# Altium schematic symbol library MSP430原理图.SCHLIB: 130 symbols (part 2 of 2)

## MSP430F54XXIPN
designator ?
pins: 1 P6.4/A4, 2 P6.5/A5, 3 P6.6/A6, 4 P6.7/A7, 5 P7.4/A12, 6 P7.5/A13, 7 P7.6/A14, 8 P7.7/A15, 9 P5.0/A8/VREF+/VeREF+, 10 P5.1/A9/VREF?/VeREF-, 11 AVcc, 12 AVss, 13 P7.0/XIN, 14 P7.1/XOUT, 15 DVss1, 16 DVcc1, 17 P1.0, 18 P1.1/TA0.0, 19 P1.2/TA0.1, 20 P1.3/TA0.2, 21 P1.4/TA0.3, 22 P1.5/TA0.4, 23 P1.6/SMCLK, 24 P1.7, 25 P2.0, 26 P2.1/TA1.0, 27 P2.2/TA1.1, 28 P2.3/TA1.2, 29 P2.4/RTCCLK, 30 DVSS3, 31 DVCC3, 32 P2.5, 33 P2.6/ACLK, 34 P2.7, 35 P3.0, 36 P3.1, 37 P3.2, 38 P3.3, 39 P3.4, 40 P3.5, 41 P3.6, 42 P3.7, 43 P4.0/TB0.0, 44 P4.1/TB0.1, 45 P4.2/TB0.2, 46 P4.3/TB0.3, 47 P4.4/TB0.4, 48 P4.5/TB0.5, 49 VCORE, 50 DVSS2, 51 DVCC2, 52 P4.6/TB0.6, 53 P4.7/TBCLK/SMCLK, 54 P5.4/UCB1SOMI/UCB1SCL, 55 P5.5/UCB1SCLK/UCA1STE, 56 P5.6/UCA1TXD/UCA1SIMO, 57 P5.7/UCA1RXD/UCA1SOMI, 58 P7.2/TBOUTH/SVMOUT, 59 P7.3/TA1.2, 60 P8.0/TA0.0, 61 P8.1/TA0.1, 62 P8.2/TA0.2, 63 P8.3/TA0.3, 64 P8.4/TA0.4, 65 P8.5/TA1.0, 66 P8.6/TA1.1, 67 DVCC4, 68 DVSS4, 69 P5.2/XT2IN, 70 P5.3/XT2OUT, 71 TEST/SBWTCK, 72 PJ.0/TDO, 73 PJ.1/TDI/TCLK, 74 PJ.2/TMS, 75 PJ.3/TCK, 76 ~{RST}/NMI/SBWTDIO, 77 P6.0/A0, 78 P6.1/A1, 79 P6.2/A2, 80 P6.3/A3
text: 41:UCB1STE/UCA1CLK; 42:UCB1SIMO/UCB1SDA; 25:TA1CLK/MCLK; 34:ADC12CLK/DMAE0; 17:TA0CLK/ACLK; 35:UCB0STE/UCA0CLK; 36:UCB0SIMO/UCB0SDA; 37:UCB0SOMI/UCB0SCL; 38:UCB0CLK/UCA0STE; 39:UCA0TXD/UCA0SIMO; 40:UCA0RXD/UCA0SOMI

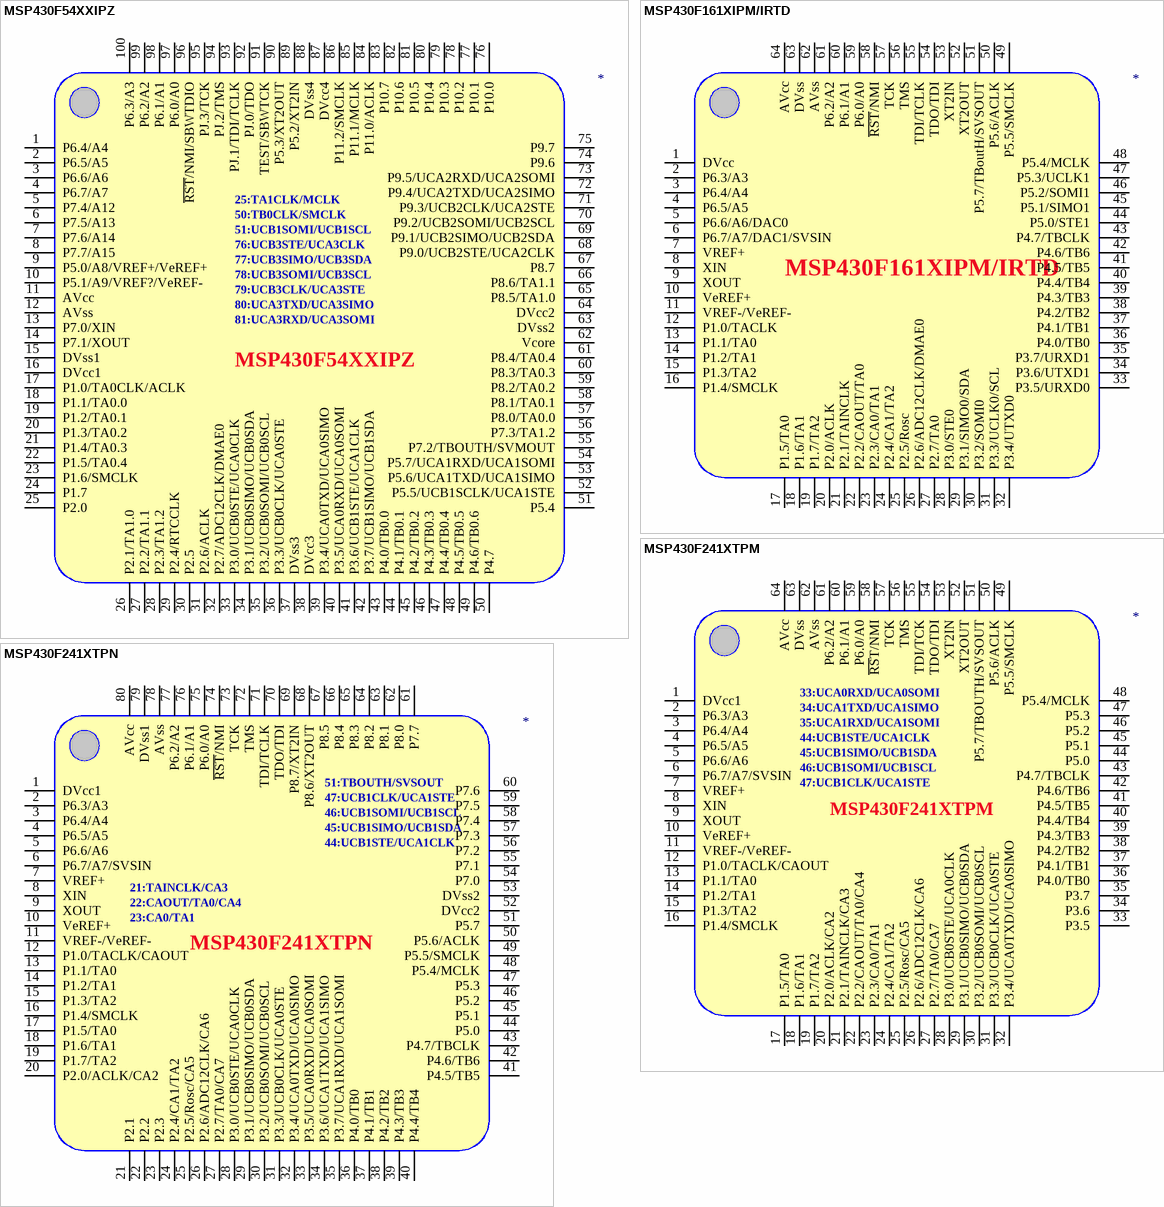
[diagram p9: symbols MSP430F54XXIPZ to MSP430F241XTPN]

## MSP430F54XXIPZ
designator ?
pins: 1 P6.4/A4, 2 P6.5/A5, 3 P6.6/A6, 4 P6.7/A7, 5 P7.4/A12, 6 P7.5/A13, 7 P7.6/A14, 8 P7.7/A15, 9 P5.0/A8/VREF+/VeREF+, 10 P5.1/A9/VREF?/VeREF-, 11 AVcc, 12 AVss, 13 P7.0/XIN, 14 P7.1/XOUT, 15 DVss1, 16 DVcc1, 17 P1.0/TA0CLK/ACLK, 18 P1.1/TA0.0, 19 P1.2/TA0.1, 20 P1.3/TA0.2, 21 P1.4/TA0.3, 22 P1.5/TA0.4, 23 P1.6/SMCLK, 24 P1.7, 25 P2.0, 26 P2.1/TA1.0, 27 P2.2/TA1.1, 28 P2.3/TA1.2, 29 P2.4/RTCCLK, 30 P2.5, 31 P2.6/ACLK, 32 P2.7/ADC12CLK/DMAE0, 33 P3.0/UCB0STE/UCA0CLK, 34 P3.1/UCB0SIMO/UCB0SDA, 35 P3.2/UCB0SOMI/UCB0SCL, 36 P3.3/UCB0CLK/UCA0STE, 37 DVss3, 38 DVcc3, 39 P3.4/UCA0TXD/UCA0SIMO, 40 P3.5/UCA0RXD/UCA0SOMI, 41 P3.6/UCB1STE/UCA1CLK, 42 P3.7/UCB1SIMO/UCB1SDA, 43 P4.0/TB0.0, 44 P4.1/TB0.1, 45 P4.2/TB0.2, 46 P4.3/TB0.3, 47 P4.4/TB0.4, 48 P4.5/TB0.5, 49 P4.6/TB0.6, 50 P4.7, 51 P5.4, 52 P5.5/UCB1SCLK/UCA1STE, 53 P5.6/UCA1TXD/UCA1SIMO, 54 P5.7/UCA1RXD/UCA1SOMI, 55 P7.2/TBOUTH/SVMOUT, 56 P7.3/TA1.2, 57 P8.0/TA0.0, 58 P8.1/TA0.1, 59 P8.2/TA0.2, 60 P8.3/TA0.3, 61 P8.4/TA0.4, 62 Vcore, 63 DVss2, 64 DVcc2, 65 P8.5/TA1.0, 66 P8.6/TA1.1, 67 P8.7, 68 P9.0/UCB2STE/UCA2CLK, 69 P9.1/UCB2SIMO/UCB2SDA, 70 P9.2/UCB2SOMI/UCB2SCL, 71 P9.3/UCB2CLK/UCA2STE, 72 P9.4/UCA2TXD/UCA2SIMO, 73 P9.5/UCA2RXD/UCA2SOMI, 74 P9.6, 75 P9.7, 76 P10.0, 77 P10.1, 78 P10.2, 79 P10.3, 80 P10.4, 81 P10.5, 82 P10.6, 83 P10.7, 84 P11.0/ACLK, 85 P11.1/MCLK, 86 P11.2/SMCLK, 87 DVcc4, 88 DVss4, 89 P5.2/XT2IN, 90 P5.3/XT2OUT, 91 TEST/SBWTCK, 92 PJ.0/TDO, 93 PJ.1/TDI/TCLK, 94 PJ.2/TMS, 95 PJ.3/TCK, 96 ~{RST}/NMI/SBWTDIO, 97 P6.0/A0, 98 P6.1/A1, 99 P6.2/A2, 100 P6.3/A3
text: 25:TA1CLK/MCLK; 50:TB0CLK/SMCLK; 51:UCB1SOMI/UCB1SCL; 76:UCB3STE/UCA3CLK; 77:UCB3SIMO/UCB3SDA; 78:UCB3SOMI/UCB3SCL; 79:UCB3CLK/UCA3STE; 80:UCA3TXD/UCA3SIMO; 81:UCA3RXD/UCA3SOMI

## MSP430F161XIPM/IRTD
designator ?
pins: 1 DVcc, 2 P6.3/A3, 3 P6.4/A4, 4 P6.5/A5, 5 P6.6/A6/DAC0, 6 P6.7/A7/DAC1/SVSIN, 7 VREF+, 8 XIN, 9 XOUT, 10 VeREF+, 11 VREF-/VeREF-, 12 P1.0/TACLK, 13 P1.1/TA0, 14 P1.2/TA1, 15 P1.3/TA2, 16 P1.4/SMCLK, 17 P1.5/TA0, 18 P1.6/TA1, 19 P1.7/TA2, 20 P2.0/ACLK, 21 P2.1/TAINCLK, 22 P2.2/CAOUT/TA0, 23 P2.3/CA0/TA1, 24 P2.4/CA1/TA2, 25 P2.5/Rosc, 26 P2.6/ADC12CLK/DMAE0, 27 P2.7/TA0, 28 P3.0/STE0, 29 P3.1/SIMO0/SDA, 30 P3.2/SOMI0, 31 P3.3/UCLK0/SCL, 32 P3.4/UTXD0, 33 P3.5/URXD0, 34 P3.6/UTXD1, 35 P3.7/URXD1, 36 P4.0/TB0, 37 P4.1/TB1, 38 P4.2/TB2, 39 P4.3/TB3, 40 P4.4/TB4, 41 P4.5/TB5, 42 P4.6/TB6, 43 P4.7/TBCLK, 44 P5.0/STE1, 45 P5.1/SIMO1, 46 P5.2/SOMI1, 47 P5.3/UCLK1, 48 P5.4/MCLK, 49 P5.5/SMCLK, 50 P5.6/ACLK, 51 P5.7/TBoutH/SVSOUT, 52 XT2OUT, 53 XT2IN, 54 TDO/TDI, 55 TDI/TCLK, 56 TMS, 57 TCK, 58 ~{RST}/NMI, 59 P6.0/A0, 60 P6.1/A1, 61 P6.2/A2, 62 AVss, 63 DVss, 64 AVcc

## MSP430F241XTPM
designator ?
pins: 1 DVcc1, 2 P6.3/A3, 3 P6.4/A4, 4 P6.5/A5, 5 P6.6/A6, 6 P6.7/A7/SVSIN, 7 VREF+, 8 XIN, 9 XOUT, 10 VeREF+, 11 VREF-/VeREF-, 12 P1.0/TACLK/CAOUT, 13 P1.1/TA0, 14 P1.2/TA1, 15 P1.3/TA2, 16 P1.4/SMCLK, 17 P1.5/TA0, 18 P1.6/TA1, 19 P1.7/TA2, 20 P2.0/ACLK/CA2, 21 P2.1/TAINCLK/CA3, 22 P2.2/CAOUT/TA0/CA4, 23 P2.3/CA0/TA1, 24 P2.4/CA1/TA2, 25 P2.5/Rosc/CA5, 26 P2.6/ADC12CLK/CA6, 27 P2.7/TA0/CA7, 28 P3.0/UCB0STE/UCA0CLK, 29 P3.1/UCB0SIMO/UCB0SDA, 30 P3.2/UCB0SOMI/UCB0SCL, 31 P3.3/UCB0CLK/UCA0STE, 32 P3.4/UCA0TXD/UCA0SIMO, 33 P3.5, 34 P3.6, 35 P3.7, 36 P4.0/TB0, 37 P4.1/TB1, 38 P4.2/TB2, 39 P4.3/TB3, 40 P4.4/TB4, 41 P4.5/TB5, 42 P4.6/TB6, 43 P4.7/TBCLK, 44 P5.0, 45 P5.1, 46 P5.2, 47 P5.3, 48 P5.4/MCLK, 49 P5.5/SMCLK, 50 P5.6/ACLK, 51 P5.7/TBOUTH/SVSOUT, 52 XT2OUT, 53 XT2IN, 54 TDO/TDI, 55 TDI/TCK, 56 TMS, 57 TCK, 58 ~{RS}T/NMI, 59 P6.0/A0, 60 P6.1/A1, 61 P6.2/A2, 62 AVss, 63 DVss, 64 AVcc
text: 33:UCA0RXD/UCA0SOMI; 34:UCA1TXD/UCA1SIMO; 35:UCA1RXD/UCA1SOMI; 44:UCB1STE/UCA1CLK; 45:UCB1SIMO/UCB1SDA; 46:UCB1SOMI/UCB1SCL; 47:UCB1CLK/UCA1STE

## MSP430F241XTPN
designator ?
pins: 1 DVcc1, 2 P6.3/A3, 3 P6.4/A4, 4 P6.5/A5, 5 P6.6/A6, 6 P6.7/A7/SVSIN, 7 VREF+, 8 XIN, 9 XOUT, 10 VeREF+, 11 VREF-/VeREF-, 12 P1.0/TACLK/CAOUT, 13 P1.1/TA0, 14 P1.2/TA1, 15 P1.3/TA2, 16 P1.4/SMCLK, 17 P1.5/TA0, 18 P1.6/TA1, 19 P1.7/TA2, 20 P2.0/ACLK/CA2, 21 P2.1, 22 P2.2, 23 P2.3, 24 P2.4/CA1/TA2, 25 P2.5/Rosc/CA5, 26 P2.6/ADC12CLK/CA6, 27 P2.7/TA0/CA7, 28 P3.0/UCB0STE/UCA0CLK, 29 P3.1/UCB0SIMO/UCB0SDA, 30 P3.2/UCB0SOMI/UCB0SCL, 31 P3.3/UCB0CLK/UCA0STE, 32 P3.4/UCA0TXD/UCA0SIMO, 33 P3.5/UCA0RXD/UCA0SOMI, 34 P3.6/UCA1TXD/UCA1SIMO, 35 P3.7/UCA1RXD/UCA1SOMI, 36 P4.0/TB0, 37 P4.1/TB1, 38 P4.2/TB2, 39 P4.3/TB3, 40 P4.4/TB4, 41 P4.5/TB5, 42 P4.6/TB6, 43 P4.7/TBCLK, 44 P5.0, 45 P5.1, 46 P5.2, 47 P5.3, 48 P5.4/MCLK, 49 P5.5/SMCLK, 50 P5.6/ACLK, 51 P5.7, 52 DVcc2, 53 DVss2, 54 P7.0, 55 P7.1, 56 P7.2, 57 P7.3, 58 P7.4, 59 P7.5, 60 P7.6, 61 P7.7, 62 P8.0, 63 P8.1, 64 P8.2, 65 P8.3, 66 P8.4, 67 P8.5, 68 P8.6/XT2OUT, 69 P8.7/XT2IN, 70 TDO/TDI, 71 TDI/TCLK, 72 TMS, 73 TCK, 74 ~{RST}/NMI, 75 P6.0/A0, 76 P6.1/A1, 77 P6.2/A2, 78 AVss, 79 DVss1, 80 AVcc
text: 51:TBOUTH/SVSOUT; 47:UCB1CLK/UCA1STE; 46:UCB1SOMI/UCB1SCL; 45:UCB1SIMO/UCB1SDA; 44:UCB1STE/UCA1CLK; 21:TAINCLK/CA3; 22:CAOUT/TA0/CA4; 23:CA0/TA1

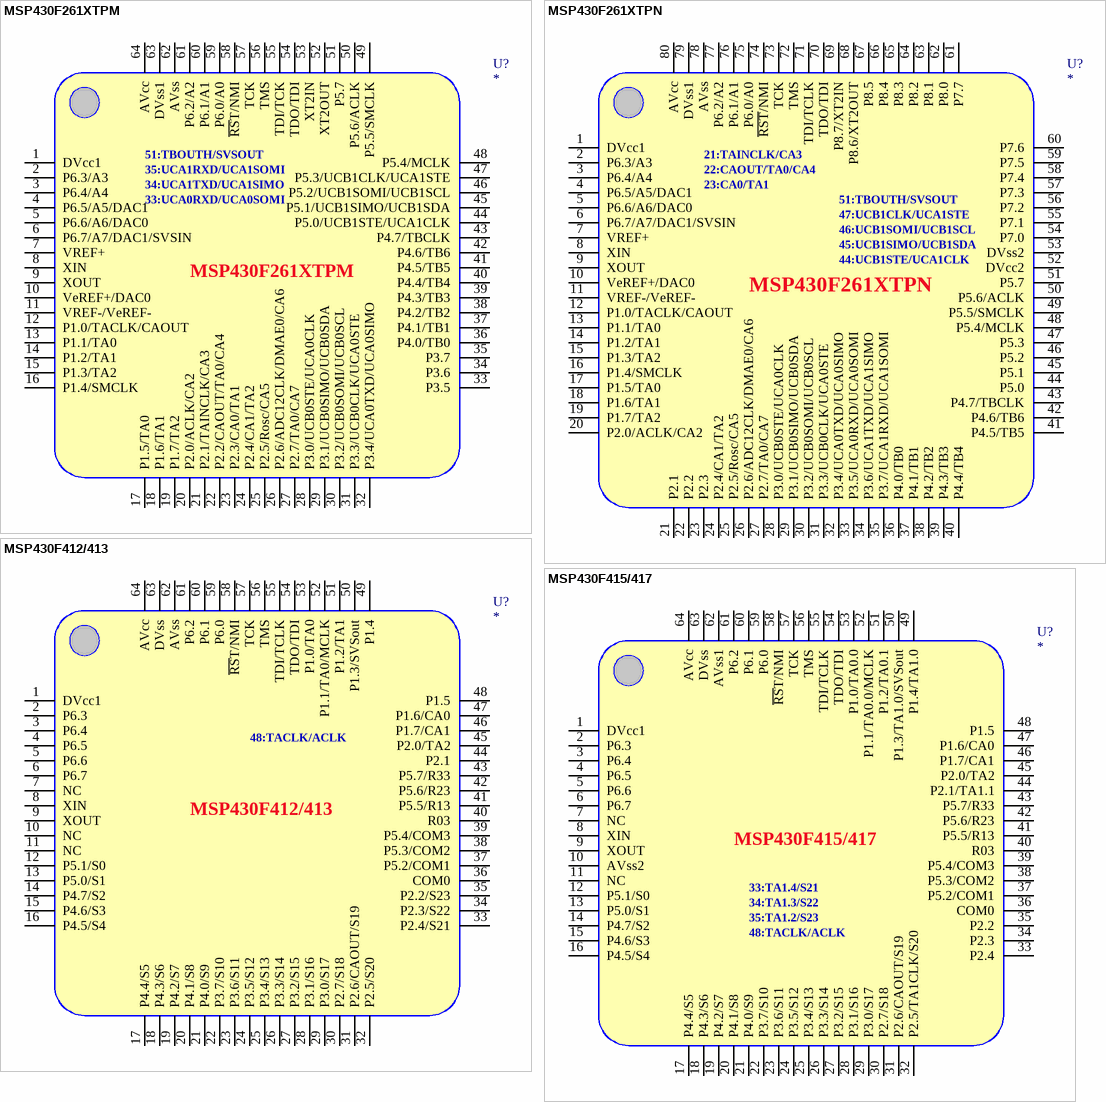
[diagram p10: symbols MSP430F261XTPM to MSP430F415/417]

## MSP430F261XTPM
designator U?
footprint S-PQFP-G64
pins: 1 DVcc1, 2 P6.3/A3, 3 P6.4/A4, 4 P6.5/A5/DAC1, 5 P6.6/A6/DAC0, 6 P6.7/A7/DAC1/SVSIN, 7 VREF+, 8 XIN, 9 XOUT, 10 VeREF+/DAC0, 11 VREF-/VeREF-, 12 P1.0/TACLK/CAOUT, 13 P1.1/TA0, 14 P1.2/TA1, 15 P1.3/TA2, 16 P1.4/SMCLK, 17 P1.5/TA0, 18 P1.6/TA1, 19 P1.7/TA2, 20 P2.0/ACLK/CA2, 21 P2.1/TAINCLK/CA3, 22 P2.2/CAOUT/TA0/CA4, 23 P2.3/CA0/TA1, 24 P2.4/CA1/TA2, 25 P2.5/Rosc/CA5, 26 P2.6/ADC12CLK/DMAE0/CA6, 27 P2.7/TA0/CA7, 28 P3.0/UCB0STE/UCA0CLK, 29 P3.1/UCB0SIMO/UCB0SDA, 30 P3.2/UCB0SOMI/UCB0SCL, 31 P3.3/UCB0CLK/UCA0STE, 32 P3.4/UCA0TXD/UCA0SIMO, 33 P3.5, 34 P3.6, 35 P3.7, 36 P4.0/TB0, 37 P4.1/TB1, 38 P4.2/TB2, 39 P4.3/TB3, 40 P4.4/TB4, 41 P4.5/TB5, 42 P4.6/TB6, 43 P4.7/TBCLK, 44 P5.0/UCB1STE/UCA1CLK, 45 P5.1/UCB1SIMO/UCB1SDA, 46 P5.2/UCB1SOMI/UCB1SCL, 47 P5.3/UCB1CLK/UCA1STE, 48 P5.4/MCLK, 49 P5.5/SMCLK, 50 P5.6/ACLK, 51 P5.7, 52 XT2OUT, 53 XT2IN, 54 TDO/TDI, 55 TDI/TCK, 56 TMS, 57 TCK, 58 ~{RS}T/NMI, 59 P6.0/A0, 60 P6.1/A1, 61 P6.2/A2, 62 AVss, 63 DVss1, 64 AVcc
text: 51:TBOUTH/SVSOUT; 35:UCA1RXD/UCA1SOMI; 34:UCA1TXD/UCA1SIMO; 33:UCA0RXD/UCA0SOMI

## MSP430F261XTPN
designator U?
MSP430F261XIPN
footprint S-PQFP-G80
pins: 1 DVcc1, 2 P6.3/A3, 3 P6.4/A4, 4 P6.5/A5/DAC1, 5 P6.6/A6/DAC0, 6 P6.7/A7/DAC1/SVSIN, 7 VREF+, 8 XIN, 9 XOUT, 10 VeREF+/DAC0, 11 VREF-/VeREF-, 12 P1.0/TACLK/CAOUT, 13 P1.1/TA0, 14 P1.2/TA1, 15 P1.3/TA2, 16 P1.4/SMCLK, 17 P1.5/TA0, 18 P1.6/TA1, 19 P1.7/TA2, 20 P2.0/ACLK/CA2, 21 P2.1, 22 P2.2, 23 P2.3, 24 P2.4/CA1/TA2, 25 P2.5/Rosc/CA5, 26 P2.6/ADC12CLK/DMAE0/CA6, 27 P2.7/TA0/CA7, 28 P3.0/UCB0STE/UCA0CLK, 29 P3.1/UCB0SIMO/UCB0SDA, 30 P3.2/UCB0SOMI/UCB0SCL, 31 P3.3/UCB0CLK/UCA0STE, 32 P3.4/UCA0TXD/UCA0SIMO, 33 P3.5/UCA0RXD/UCA0SOMI, 34 P3.6/UCA1TXD/UCA1SIMO, 35 P3.7/UCA1RXD/UCA1SOMI, 36 P4.0/TB0, 37 P4.1/TB1, 38 P4.2/TB2, 39 P4.3/TB3, 40 P4.4/TB4, 41 P4.5/TB5, 42 P4.6/TB6, 43 P4.7/TBCLK, 44 P5.0, 45 P5.1, 46 P5.2, 47 P5.3, 48 P5.4/MCLK, 49 P5.5/SMCLK, 50 P5.6/ACLK, 51 P5.7, 52 DVcc2, 53 DVss2, 54 P7.0, 55 P7.1, 56 P7.2, 57 P7.3, 58 P7.4, 59 P7.5, 60 P7.6, 61 P7.7, 62 P8.0, 63 P8.1, 64 P8.2, 65 P8.3, 66 P8.4, 67 P8.5, 68 P8.6/XT2OUT, 69 P8.7/XT2IN, 70 TDO/TDI, 71 TDI/TCLK, 72 TMS, 73 TCK, 74 ~{RST}/NMI, 75 P6.0/A0, 76 P6.1/A1, 77 P6.2/A2, 78 AVss, 79 DVss1, 80 AVcc
text: 21:TAINCLK/CA3; 22:CAOUT/TA0/CA4; 23:CA0/TA1; 51:TBOUTH/SVSOUT; 47:UCB1CLK/UCA1STE; 46:UCB1SOMI/UCB1SCL; 45:UCB1SIMO/UCB1SDA; 44:UCB1STE/UCA1CLK

## MSP430F412/413
designator U?
footprint S-PQFP-G64
pins: 1 DVcc1, 2 P6.3, 3 P6.4, 4 P6.5, 5 P6.6, 6 P6.7, 7 NC, 8 XIN, 9 XOUT, 10 NC, 11 NC, 12 P5.1/S0, 13 P5.0/S1, 14 P4.7/S2, 15 P4.6/S3, 16 P4.5/S4, 17 P4.4/S5, 18 P4.3/S6, 19 P4.2/S7, 20 P4.1/S8, 21 P4.0/S9, 22 P3.7/S10, 23 P3.6/S11, 24 P3.5/S12, 25 P3.4/S13, 26 P3.3/S14, 27 P3.2/S15, 28 P3.1/S16, 29 P3.0/S17, 30 P2.7/S18, 31 P2.6/CAOUT/S19, 32 P2.5/S20, 33 P2.4/S21, 34 P2.3/S22, 35 P2.2/S23, 36 COM0, 37 P5.2/COM1, 38 P5.3/COM2, 39 P5.4/COM3, 40 R03, 41 P5.5/R13, 42 P5.6/R23, 43 P5.7/R33, 44 P2.1, 45 P2.0/TA2, 46 P1.7/CA1, 47 P1.6/CA0, 48 P1.5, 49 P1.4, 50 P1.3/SVSout, 51 P1.2/TA1, 52 P1.1/TA0/MCLK, 53 P1.0/TA0, 54 TDO/TDI, 55 TDI/TCLK, 56 TMS, 57 TCK, 58 ~{RS}T/NMI, 59 P6.0, 60 P6.1, 61 P6.2, 62 AVss, 63 DVss, 64 AVcc
text: 48:TACLK/ACLK

## MSP430F415/417
designator U?
footprint S-PQFP-G64
pins: 1 DVcc1, 2 P6.3, 3 P6.4, 4 P6.5, 5 P6.6, 6 P6.7, 7 NC, 8 XIN, 9 XOUT, 10 AVss2, 11 NC, 12 P5.1/S0, 13 P5.0/S1, 14 P4.7/S2, 15 P4.6/S3, 16 P4.5/S4, 17 P4.4/S5, 18 P4.3/S6, 19 P4.2/S7, 20 P4.1/S8, 21 P4.0/S9, 22 P3.7/S10, 23 P3.6/S11, 24 P3.5/S12, 25 P3.4/S13, 26 P3.3/S14, 27 P3.2/S15, 28 P3.1/S16, 29 P3.0/S17, 30 P2.7/S18, 31 P2.6/CAOUT/S19, 32 P2.5/TA1CLK/S20, 33 P2.4, 34 P2.3, 35 P2.2, 36 COM0, 37 P5.2/COM1, 38 P5.3/COM2, 39 P5.4/COM3, 40 R03, 41 P5.5/R13, 42 P5.6/R23, 43 P5.7/R33, 44 P2.1/TA1.1, 45 P2.0/TA2, 46 P1.7/CA1, 47 P1.6/CA0, 48 P1.5, 49 P1.4/TA1.0, 50 P1.3/TA1.0/SVSout, 51 P1.2/TA0.1, 52 P1.1/TA0.0/MCLK, 53 P1.0/TA0.0, 54 TDO/TDI, 55 TDI/TCLK, 56 TMS, 57 TCK, 58 ~{RS}T/NMI, 59 P6.0, 60 P6.1, 61 P6.2, 62 AVss1, 63 DVss, 64 AVcc
text: 33:TA1.4/S21; 34:TA1.3/S22; 35:TA1.2/S23; 48:TACLK/ACLK

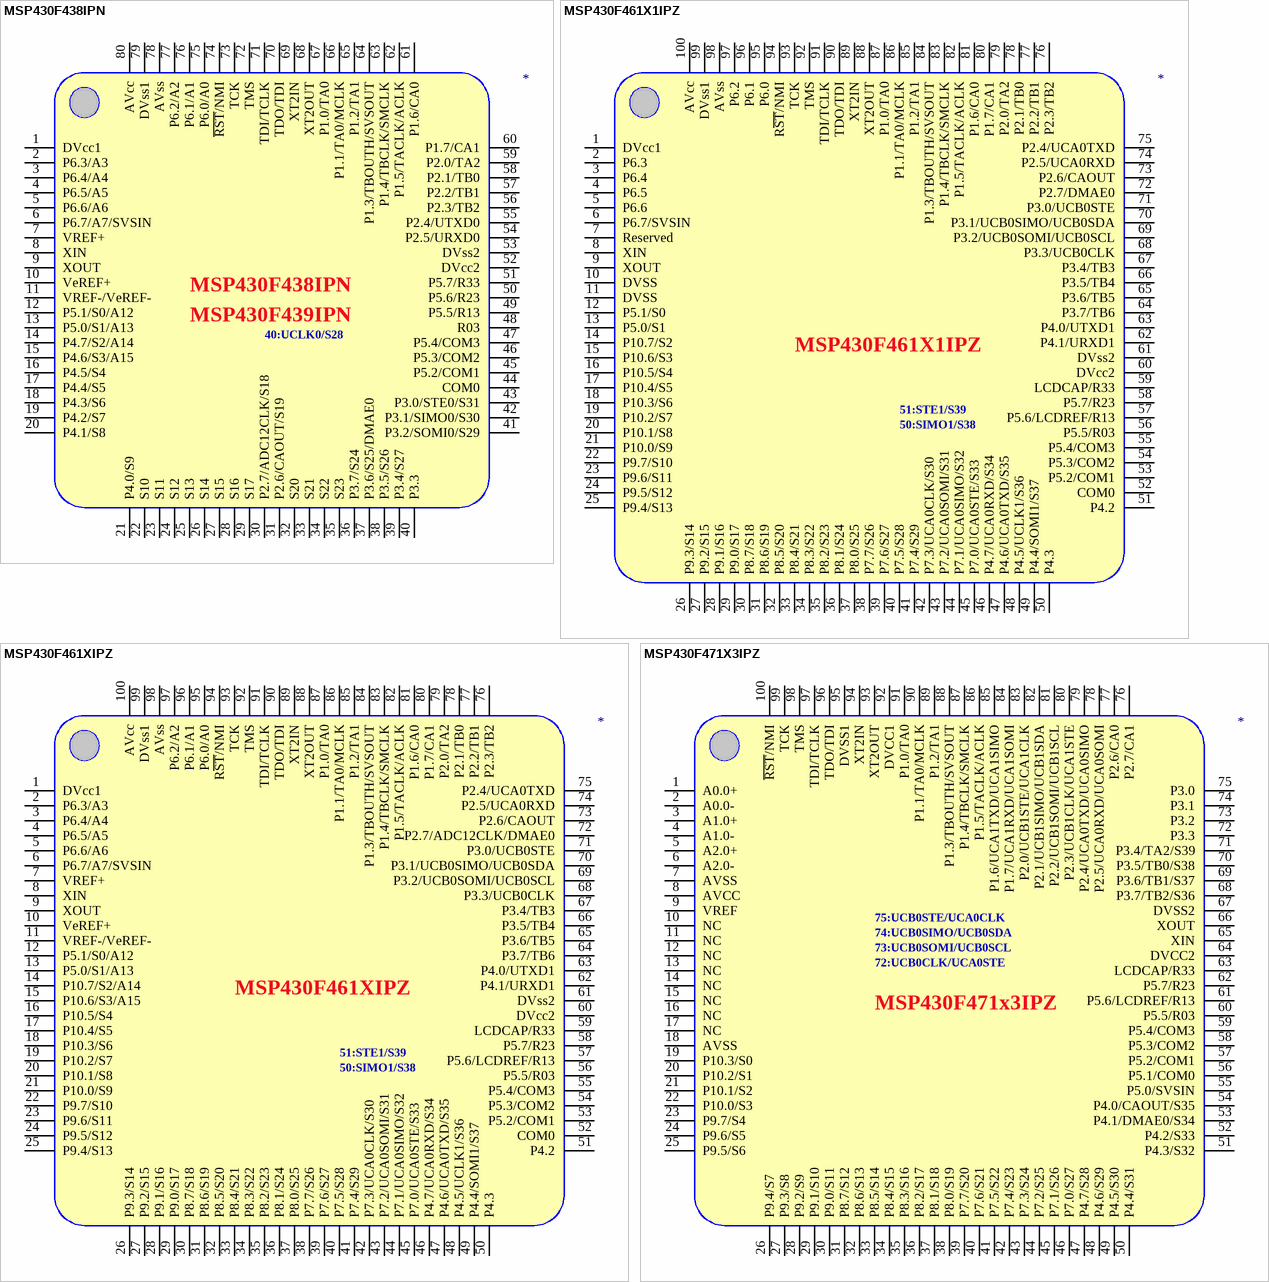
[diagram p11: symbols MSP430F438IPN to MSP430F471X3IPZ]

## MSP430F438IPN
designator ?
pins: 1 DVcc1, 2 P6.3/A3, 3 P6.4/A4, 4 P6.5/A5, 5 P6.6/A6, 6 P6.7/A7/SVSIN, 7 VREF+, 8 XIN, 9 XOUT, 10 VeREF+, 11 VREF-/VeREF-, 12 P5.1/S0/A12, 13 P5.0/S1/A13, 14 P4.7/S2/A14, 15 P4.6/S3/A15, 16 P4.5/S4, 17 P4.4/S5, 18 P4.3/S6, 19 P4.2/S7, 20 P4.1/S8, 21 P4.0/S9, 22 S10, 23 S11, 24 S12, 25 S13, 26 S14, 27 S15, 28 S16, 29 S17, 30 P2.7/ADC12CLK/S18, 31 P2.6/CAOUT/S19, 32 S20, 33 S21, 34 S22, 35 S23, 36 P3.7/S24, 37 P3.6/S25/DMAE0, 38 P3.5/S26, 39 P3.4/S27, 40 P3.3, 41 P3.2/SOMI0/S29, 42 P3.1/SIMO0/S30, 43 P3.0/STE0/S31, 44 COM0, 45 P5.2/COM1, 46 P5.3/COM2, 47 P5.4/COM3, 48 R03, 49 P5.5/R13, 50 P5.6/R23, 51 P5.7/R33, 52 DVcc2, 53 DVss2, 54 P2.5/URXD0, 55 P2.4/UTXD0, 56 P2.3/TB2, 57 P2.2/TB1, 58 P2.1/TB0, 59 P2.0/TA2, 60 P1.7/CA1, 61 P1.6/CA0, 62 P1.5/TACLK/ACLK, 63 P1.4/TBCLK/SMCLK, 64 P1.3/TBOUTH/SVSOUT, 65 P1.2/TA1, 66 P1.1/TA0/MCLK, 67 P1.0/TA0, 68 XT2OUT, 69 XT2IN, 70 TDO/TDI, 71 TDI/TCLK, 72 TMS, 73 TCK, 74 ~{RST}/NMI, 75 P6.0/A0, 76 P6.1/A1, 77 P6.2/A2, 78 AVss, 79 DVss1, 80 AVcc
text: MSP430F439IPN; 40:UCLK0/S28

## MSP430F461X1IPZ
designator ?
pins: 1 DVcc1, 2 P6.3, 3 P6.4, 4 P6.5, 5 P6.6, 6 P6.7/SVSIN, 7 Reserved, 8 XIN, 9 XOUT, 10 DVSS, 11 DVSS, 12 P5.1/S0, 13 P5.0/S1, 14 P10.7/S2, 15 P10.6/S3, 16 P10.5/S4, 17 P10.4/S5, 18 P10.3/S6, 19 P10.2/S7, 20 P10.1/S8, 21 P10.0/S9, 22 P9.7/S10, 23 P9.6/S11, 24 P9.5/S12, 25 P9.4/S13, 26 P9.3/S14, 27 P9.2/S15, 28 P9.1/S16, 29 P9.0/S17, 30 P8.7/S18, 31 P8.6/S19, 32 P8.5/S20, 33 P8.4/S21, 34 P8.3/S22, 35 P8.2/S23, 36 P8.1/S24, 37 P8.0/S25, 38 P7.7/S26, 39 P7.6/S27, 40 P7.5/S28, 41 P7.4/S29, 42 P7.3/UCA0CLK/S30, 43 P7.2/UCA0SOMI/S31, 44 P7.1/UCA0SIMO/S32, 45 P7.0/UCA0STE/S33, 46 P4.7/UCA0RXD/S34, 47 P4.6/UCA0TXD/S35, 48 P4.5/UCLK1/S36, 49 P4.4/SOMI1/S37, 50 P4.3, 51 P4.2, 52 COM0, 53 P5.2/COM1, 54 P5.3/COM2, 55 P5.4/COM3, 56 P5.5/R03, 57 P5.6/LCDREF/R13, 58 P5.7/R23, 59 LCDCAP/R33, 60 DVcc2, 61 DVss2, 62 P4.1/URXD1, 63 P4.0/UTXD1, 64 P3.7/TB6, 65 P3.6/TB5, 66 P3.5/TB4, 67 P3.4/TB3, 68 P3.3/UCB0CLK, 69 P3.2/UCB0SOMI/UCB0SCL, 70 P3.1/UCB0SIMO/UCB0SDA, 71 P3.0/UCB0STE, 72 P2.7/DMAE0, 73 P2.6/CAOUT, 74 P2.5/UCA0RXD, 75 P2.4/UCA0TXD, 76 P2.3/TB2, 77 P2.2/TB1, 78 P2.1/TB0, 79 P2.0/TA2, 80 P1.7/CA1, 81 P1.6/CA0, 82 P1.5/TACLK/ACLK, 83 P1.4/TBCLK/SMCLK, 84 P1.3/TBOUTH/SVSOUT, 85 P1.2/TA1, 86 P1.1/TA0/MCLK, 87 P1.0/TA0, 88 XT2OUT, 89 XT2IN, 90 TDO/TDI, 91 TDI/TCLK, 92 TMS, 93 TCK, 94 R~{ST}/NMI, 95 P6.0, 96 P6.1, 97 P6.2, 98 AVss, 99 DVss1, 100 AVcc
text: 51:STE1/S39; 50:SIMO1/S38

## MSP430F461XIPZ
designator ?
pins: 1 DVcc1, 2 P6.3/A3, 3 P6.4/A4, 4 P6.5/A5, 5 P6.6/A6, 6 P6.7/A7/SVSIN, 7 VREF+, 8 XIN, 9 XOUT, 10 VeREF+, 11 VREF-/VeREF-, 12 P5.1/S0/A12, 13 P5.0/S1/A13, 14 P10.7/S2/A14, 15 P10.6/S3/A15, 16 P10.5/S4, 17 P10.4/S5, 18 P10.3/S6, 19 P10.2/S7, 20 P10.1/S8, 21 P10.0/S9, 22 P9.7/S10, 23 P9.6/S11, 24 P9.5/S12, 25 P9.4/S13, 26 P9.3/S14, 27 P9.2/S15, 28 P9.1/S16, 29 P9.0/S17, 30 P8.7/S18, 31 P8.6/S19, 32 P8.5/S20, 33 P8.4/S21, 34 P8.3/S22, 35 P8.2/S23, 36 P8.1/S24, 37 P8.0/S25, 38 P7.7/S26, 39 P7.6/S27, 40 P7.5/S28, 41 P7.4/S29, 42 P7.3/UCA0CLK/S30, 43 P7.2/UCA0SOMI/S31, 44 P7.1/UCA0SIMO/S32, 45 P7.0/UCA0STE/S33, 46 P4.7/UCA0RXD/S34, 47 P4.6/UCA0TXD/S35, 48 P4.5/UCLK1/S36, 49 P4.4/SOMI1/S37, 50 P4.3, 51 P4.2, 52 COM0, 53 P5.2/COM1, 54 P5.3/COM2, 55 P5.4/COM3, 56 P5.5/R03, 57 P5.6/LCDREF/R13, 58 P5.7/R23, 59 LCDCAP/R33, 60 DVcc2, 61 DVss2, 62 P4.1/URXD1, 63 P4.0/UTXD1, 64 P3.7/TB6, 65 P3.6/TB5, 66 P3.5/TB4, 67 P3.4/TB3, 68 P3.3/UCB0CLK, 69 P3.2/UCB0SOMI/UCB0SCL, 70 P3.1/UCB0SIMO/UCB0SDA, 71 P3.0/UCB0STE, 72 P2.7/ADC12CLK/DMAE0, 73 P2.6/CAOUT, 74 P2.5/UCA0RXD, 75 P2.4/UCA0TXD, 76 P2.3/TB2, 77 P2.2/TB1, 78 P2.1/TB0, 79 P2.0/TA2, 80 P1.7/CA1, 81 P1.6/CA0, 82 P1.5/TACLK/ACLK, 83 P1.4/TBCLK/SMCLK, 84 P1.3/TBOUTH/SVSOUT, 85 P1.2/TA1, 86 P1.1/TA0/MCLK, 87 P1.0/TA0, 88 XT2OUT, 89 XT2IN, 90 TDO/TDI, 91 TDI/TCLK, 92 TMS, 93 TCK, 94 R~{ST}/NMI, 95 P6.0/A0, 96 P6.1/A1, 97 P6.2/A2, 98 AVss, 99 DVss1, 100 AVcc
text: 51:STE1/S39; 50:SIMO1/S38

## MSP430F471X3IPZ
designator ?
pins: 1 A0.0+, 2 A0.0-, 3 A1.0+, 4 A1.0-, 5 A2.0+, 6 A2.0-, 7 AVSS, 8 AVCC, 9 VREF, 10 NC, 11 NC, 12 NC, 13 NC, 14 NC, 15 NC, 16 NC, 17 NC, 18 AVSS, 19 P10.3/S0, 20 P10.2/S1, 21 P10.1/S2, 22 P10.0/S3, 23 P9.7/S4, 24 P9.6/S5, 25 P9.5/S6, 26 P9.4/S7, 27 P9.3/S8, 28 P9.2/S9, 29 P9.1/S10, 30 P9.0/S11, 31 P8.7/S12, 32 P8.6/S13, 33 P8.5/S14, 34 P8.4/S15, 35 P8.3/S16, 36 P8.2/S17, 37 P8.1/S18, 38 P8.0/S19, 39 P7.7/S20, 40 P7.6/S21, 41 P7.5/S22, 42 P7.4/S23, 43 P7.3/S24, 44 P7.2/S25, 45 P7.1/S26, 46 P7.0/S27, 47 P4.7/S28, 48 P4.6/S29, 49 P4.5/S30, 50 P4.4/S31, 51 P4.3/S32, 52 P4.2/S33, 53 P4.1/DMAE0/S34, 54 P4.0/CAOUT/S35, 55 P5.0/SVSIN, 56 P5.1/COM0, 57 P5.2/COM1, 58 P5.3/COM2, 59 P5.4/COM3, 60 P5.5/R03, 61 P5.6/LCDREF/R13, 62 P5.7/R23, 63 LCDCAP/R33, 64 DVCC2, 65 XIN, 66 XOUT, 67 DVSS2, 68 P3.7/TB2/S36, 69 P3.6/TB1/S37, 70 P3.5/TB0/S38, 71 P3.4/TA2/S39, 72 P3.3, 73 P3.2, 74 P3.1, 75 P3.0, 76 P2.7/CA1, 77 P2.6/CA0, 78 P2.5/UCA0RXD/UCA0SOMI, 79 P2.4/UCA0TXD/UCA0SIMO, 80 P2.3/UCB1CLK/UCA1STE, 81 P2.2/UCB1SOMI/UCB1SCL, 82 P2.1/UCB1SIMO/UCB1SDA, 83 P2.0/UCB1STE/UCA1CLK, 84 P1.7/UCA1RXD/UCA1SOMI, 85 P1.6/UCA1TXD/UCA1SIMO, 86 P1.5/TACLK/ACLK, 87 P1.4/TBCLK/SMCLK, 88 P1.3/TBOUTH/SVSOUT, 89 P1.2/TA1, 90 P1.1/TA0/MCLK, 91 P1.0/TA0, 92 DVCC1, 93 XT2OUT, 94 XT2IN, 95 DVSS1, 96 TDO/TDI, 97 TDI/TCLK, 98 TMS, 99 TCK, 100 ~{RST}/NMI
text: 75:UCB0STE/UCA0CLK; 74:UCB0SIMO/UCB0SDA; 73:UCB0SOMI/UCB0SCL; 72:UCB0CLK/UCA0STE; MSP430F471x3IPZ

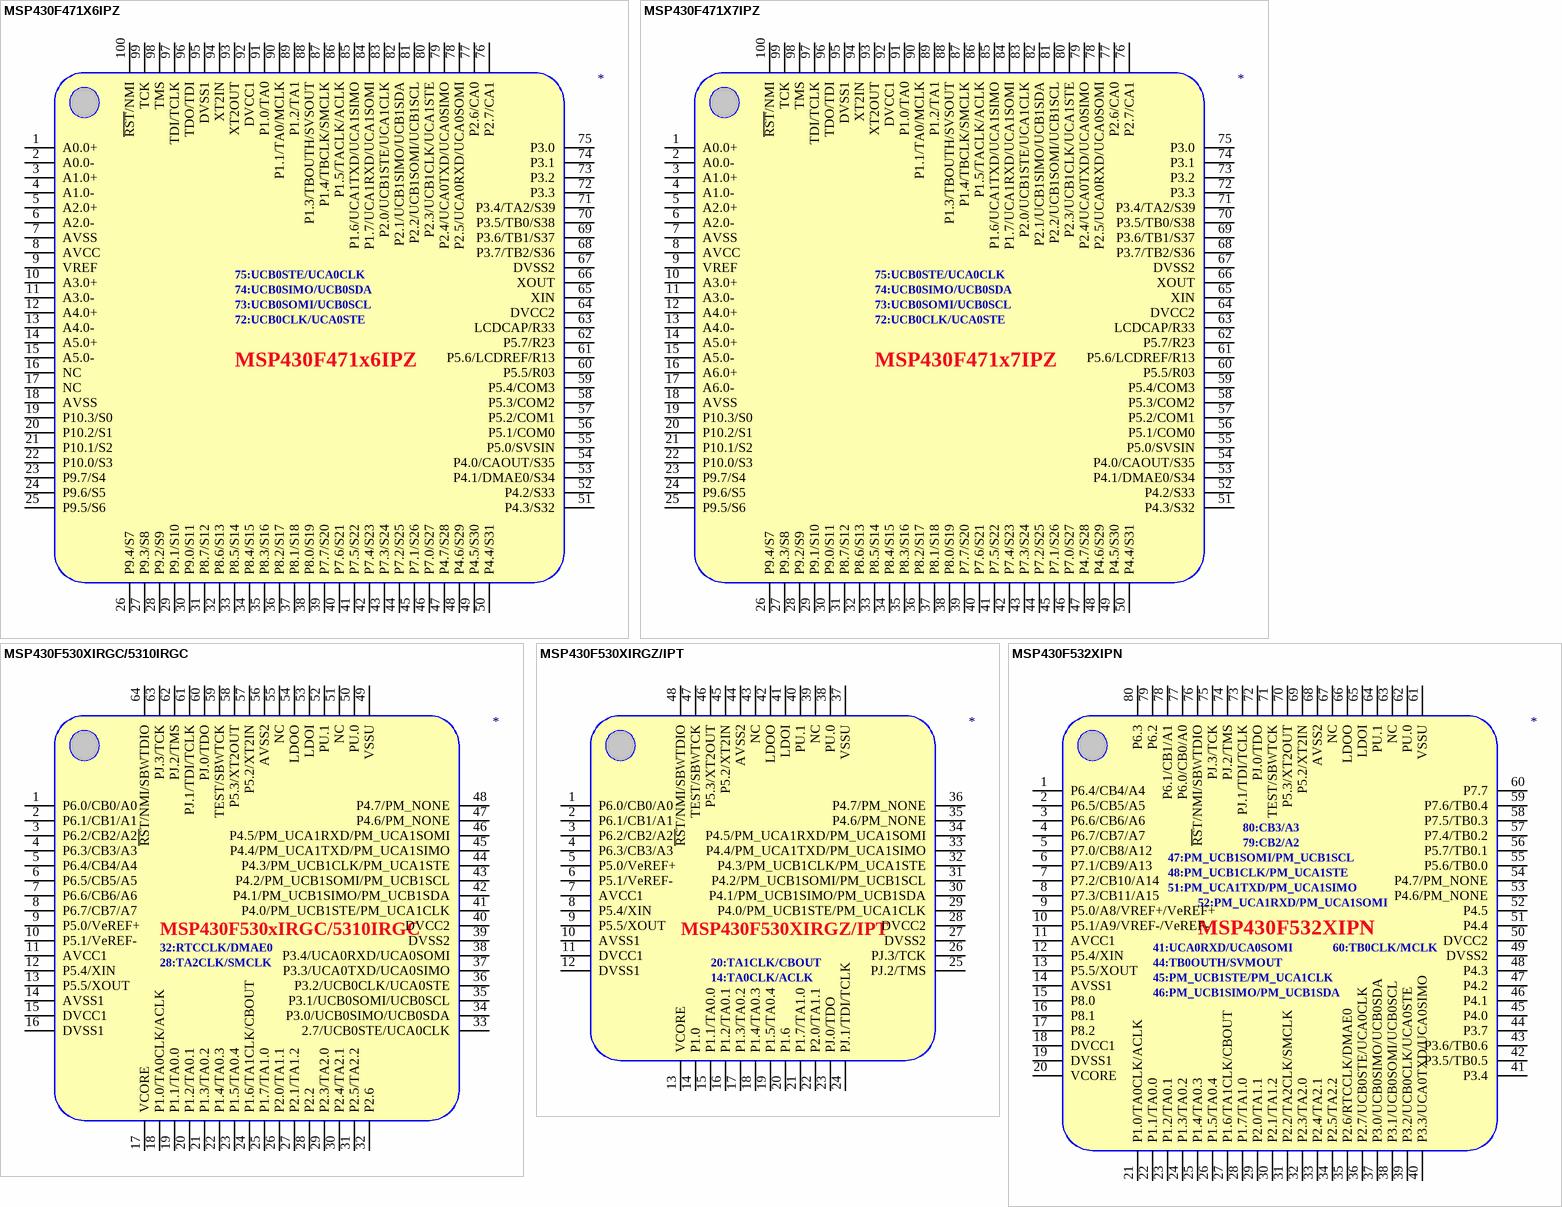
[diagram p12: symbols MSP430F471X6IPZ to MSP430F532XIPN]

## MSP430F471X6IPZ
designator ?
pins: 1 A0.0+, 2 A0.0-, 3 A1.0+, 4 A1.0-, 5 A2.0+, 6 A2.0-, 7 AVSS, 8 AVCC, 9 VREF, 10 A3.0+, 11 A3.0-, 12 A4.0+, 13 A4.0-, 14 A5.0+, 15 A5.0-, 16 NC, 17 NC, 18 AVSS, 19 P10.3/S0, 20 P10.2/S1, 21 P10.1/S2, 22 P10.0/S3, 23 P9.7/S4, 24 P9.6/S5, 25 P9.5/S6, 26 P9.4/S7, 27 P9.3/S8, 28 P9.2/S9, 29 P9.1/S10, 30 P9.0/S11, 31 P8.7/S12, 32 P8.6/S13, 33 P8.5/S14, 34 P8.4/S15, 35 P8.3/S16, 36 P8.2/S17, 37 P8.1/S18, 38 P8.0/S19, 39 P7.7/S20, 40 P7.6/S21, 41 P7.5/S22, 42 P7.4/S23, 43 P7.3/S24, 44 P7.2/S25, 45 P7.1/S26, 46 P7.0/S27, 47 P4.7/S28, 48 P4.6/S29, 49 P4.5/S30, 50 P4.4/S31, 51 P4.3/S32, 52 P4.2/S33, 53 P4.1/DMAE0/S34, 54 P4.0/CAOUT/S35, 55 P5.0/SVSIN, 56 P5.1/COM0, 57 P5.2/COM1, 58 P5.3/COM2, 59 P5.4/COM3, 60 P5.5/R03, 61 P5.6/LCDREF/R13, 62 P5.7/R23, 63 LCDCAP/R33, 64 DVCC2, 65 XIN, 66 XOUT, 67 DVSS2, 68 P3.7/TB2/S36, 69 P3.6/TB1/S37, 70 P3.5/TB0/S38, 71 P3.4/TA2/S39, 72 P3.3, 73 P3.2, 74 P3.1, 75 P3.0, 76 P2.7/CA1, 77 P2.6/CA0, 78 P2.5/UCA0RXD/UCA0SOMI, 79 P2.4/UCA0TXD/UCA0SIMO, 80 P2.3/UCB1CLK/UCA1STE, 81 P2.2/UCB1SOMI/UCB1SCL, 82 P2.1/UCB1SIMO/UCB1SDA, 83 P2.0/UCB1STE/UCA1CLK, 84 P1.7/UCA1RXD/UCA1SOMI, 85 P1.6/UCA1TXD/UCA1SIMO, 86 P1.5/TACLK/ACLK, 87 P1.4/TBCLK/SMCLK, 88 P1.3/TBOUTH/SVSOUT, 89 P1.2/TA1, 90 P1.1/TA0/MCLK, 91 P1.0/TA0, 92 DVCC1, 93 XT2OUT, 94 XT2IN, 95 DVSS1, 96 TDO/TDI, 97 TDI/TCLK, 98 TMS, 99 TCK, 100 ~{RST}/NMI
text: 75:UCB0STE/UCA0CLK; 74:UCB0SIMO/UCB0SDA; 73:UCB0SOMI/UCB0SCL; 72:UCB0CLK/UCA0STE; MSP430F471x6IPZ

## MSP430F471X7IPZ
designator ?
pins: 1 A0.0+, 2 A0.0-, 3 A1.0+, 4 A1.0-, 5 A2.0+, 6 A2.0-, 7 AVSS, 8 AVCC, 9 VREF, 10 A3.0+, 11 A3.0-, 12 A4.0+, 13 A4.0-, 14 A5.0+, 15 A5.0-, 16 A6.0+, 17 A6.0-, 18 AVSS, 19 P10.3/S0, 20 P10.2/S1, 21 P10.1/S2, 22 P10.0/S3, 23 P9.7/S4, 24 P9.6/S5, 25 P9.5/S6, 26 P9.4/S7, 27 P9.3/S8, 28 P9.2/S9, 29 P9.1/S10, 30 P9.0/S11, 31 P8.7/S12, 32 P8.6/S13, 33 P8.5/S14, 34 P8.4/S15, 35 P8.3/S16, 36 P8.2/S17, 37 P8.1/S18, 38 P8.0/S19, 39 P7.7/S20, 40 P7.6/S21, 41 P7.5/S22, 42 P7.4/S23, 43 P7.3/S24, 44 P7.2/S25, 45 P7.1/S26, 46 P7.0/S27, 47 P4.7/S28, 48 P4.6/S29, 49 P4.5/S30, 50 P4.4/S31, 51 P4.3/S32, 52 P4.2/S33, 53 P4.1/DMAE0/S34, 54 P4.0/CAOUT/S35, 55 P5.0/SVSIN, 56 P5.1/COM0, 57 P5.2/COM1, 58 P5.3/COM2, 59 P5.4/COM3, 60 P5.5/R03, 61 P5.6/LCDREF/R13, 62 P5.7/R23, 63 LCDCAP/R33, 64 DVCC2, 65 XIN, 66 XOUT, 67 DVSS2, 68 P3.7/TB2/S36, 69 P3.6/TB1/S37, 70 P3.5/TB0/S38, 71 P3.4/TA2/S39, 72 P3.3, 73 P3.2, 74 P3.1, 75 P3.0, 76 P2.7/CA1, 77 P2.6/CA0, 78 P2.5/UCA0RXD/UCA0SOMI, 79 P2.4/UCA0TXD/UCA0SIMO, 80 P2.3/UCB1CLK/UCA1STE, 81 P2.2/UCB1SOMI/UCB1SCL, 82 P2.1/UCB1SIMO/UCB1SDA, 83 P2.0/UCB1STE/UCA1CLK, 84 P1.7/UCA1RXD/UCA1SOMI, 85 P1.6/UCA1TXD/UCA1SIMO, 86 P1.5/TACLK/ACLK, 87 P1.4/TBCLK/SMCLK, 88 P1.3/TBOUTH/SVSOUT, 89 P1.2/TA1, 90 P1.1/TA0/MCLK, 91 P1.0/TA0, 92 DVCC1, 93 XT2OUT, 94 XT2IN, 95 DVSS1, 96 TDO/TDI, 97 TDI/TCLK, 98 TMS, 99 TCK, 100 ~{RST}/NMI
text: 75:UCB0STE/UCA0CLK; 74:UCB0SIMO/UCB0SDA; 73:UCB0SOMI/UCB0SCL; 72:UCB0CLK/UCA0STE; MSP430F471x7IPZ

## MSP430F530XIRGC/5310IRGC
designator ?
pins: 1 P6.0/CB0/A0, 2 P6.1/CB1/A1, 3 P6.2/CB2/A2, 4 P6.3/CB3/A3, 5 P6.4/CB4/A4, 6 P6.5/CB5/A5, 7 P6.6/CB6/A6, 8 P6.7/CB7/A7, 9 P5.0/VeREF+, 10 P5.1/VeREF-, 11 AVCC1, 12 P5.4/XIN, 13 P5.5/XOUT, 14 AVSS1, 15 DVCC1, 16 DVSS1, 17 VCORE, 18 P1.0/TA0CLK/ACLK, 19 P1.1/TA0.0, 20 P1.2/TA0.1, 21 P1.3/TA0.2, 22 P1.4/TA0.3, 23 P1.5/TA0.4, 24 P1.6/TA1CLK/CBOUT, 25 P1.7/TA1.0, 26 P2.0/TA1.1, 27 P2.1/TA1.2, 28 P2.2, 29 P2.3/TA2.0, 30 P2.4/TA2.1, 31 P2.5/TA2.2, 32 P2.6, 33 2.7/UCB0STE/UCA0CLK, 34 P3.0/UCB0SIMO/UCB0SDA, 35 P3.1/UCB0SOMI/UCB0SCL, 36 P3.2/UCB0CLK/UCA0STE, 37 P3.3/UCA0TXD/UCA0SIMO, 38 P3.4/UCA0RXD/UCA0SOMI, 39 DVSS2, 40 DVCC2, 41 P4.0/PM_UCB1STE/PM_UCA1CLK, 42 P4.1/PM_UCB1SIMO/PM_UCB1SDA, 43 P4.2/PM_UCB1SOMI/PM_UCB1SCL, 44 P4.3/PM_UCB1CLK/PM_UCA1STE, 45 P4.4/PM_UCA1TXD/PM_UCA1SIMO, 46 P4.5/PM_UCA1RXD/PM_UCA1SOMI, 47 P4.6/PM_NONE, 48 P4.7/PM_NONE, 49 VSSU, 50 PU.0, 51 NC, 52 PU.1, 53 LDOI, 54 LDOO, 55 NC, 56 AVSS2, 57 P5.2/XT2IN, 58 P5.3/XT2OUT, 59 TEST/SBWTCK, 60 PJ.0/TDO, 61 PJ.1/TDI/TCLK, 62 PJ.2/TMS, 63 PJ.3/TCK, 64 ~{RS}T/NMI/SBWTDIO
text: MSP430F530xIRGC/5310IRGC; 32:RTCCLK/DMAE0; 28:TA2CLK/SMCLK

## MSP430F530XIRGZ/IPT
designator ?
pins: 1 P6.0/CB0/A0, 2 P6.1/CB1/A1, 3 P6.2/CB2/A2, 4 P6.3/CB3/A3, 5 P5.0/VeREF+, 6 P5.1/VeREF-, 7 AVCC1, 8 P5.4/XIN, 9 P5.5/XOUT, 10 AVSS1, 11 DVCC1, 12 DVSS1, 13 VCORE, 14 P1.0, 15 P1.1/TA0.0, 16 P1.2/TA0.1, 17 P1.3/TA0.2, 18 P1.4/TA0.3, 19 P1.5/TA0.4, 20 P1.6, 21 P1.7/TA1.0, 22 P2.0/TA1.1, 23 PJ.0/TDO, 24 PJ.1/TDI/TCLK, 25 PJ.2/TMS, 26 PJ.3/TCK, 27 DVSS2, 28 DVCC2, 29 P4.0/PM_UCB1STE/PM_UCA1CLK, 30 P4.1/PM_UCB1SIMO/PM_UCB1SDA, 31 P4.2/PM_UCB1SOMI/PM_UCB1SCL, 32 P4.3/PM_UCB1CLK/PM_UCA1STE, 33 P4.4/PM_UCA1TXD/PM_UCA1SIMO, 34 P4.5/PM_UCA1RXD/PM_UCA1SOMI, 35 P4.6/PM_NONE, 36 P4.7/PM_NONE, 37 VSSU, 38 PU.0, 39 NC, 40 PU.1, 41 LDOI, 42 LDOO, 43 NC, 44 AVSS2, 45 P5.2/XT2IN, 46 P5.3/XT2OUT, 47 TEST/SBWTCK, 48 ~{RS}T/NMI/SBWTDIO
text: 20:TA1CLK/CBOUT; 14:TA0CLK/ACLK

## MSP430F532XIPN
designator ?
pins: 1 P6.4/CB4/A4, 2 P6.5/CB5/A5, 3 P6.6/CB6/A6, 4 P6.7/CB7/A7, 5 P7.0/CB8/A12, 6 P7.1/CB9/A13, 7 P7.2/CB10/A14, 8 P7.3/CB11/A15, 9 P5.0/A8/VREF+/VeREF+, 10 P5.1/A9/VREF-/VeREF-, 11 AVCC1, 12 P5.4/XIN, 13 P5.5/XOUT, 14 AVSS1, 15 P8.0, 16 P8.1, 17 P8.2, 18 DVCC1, 19 DVSS1, 20 VCORE, 21 P1.0/TA0CLK/ACLK, 22 P1.1/TA0.0, 23 P1.2/TA0.1, 24 P1.3/TA0.2, 25 P1.4/TA0.3, 26 P1.5/TA0.4, 27 P1.6/TA1CLK/CBOUT, 28 P1.7/TA1.0, 29 P2.0/TA1.1, 30 P2.1/TA1.2, 31 P2.2/TA2CLK/SMCLK, 32 P2.3/TA2.0, 33 P2.4/TA2.1, 34 P2.5/TA2.2, 35 P2.6/RTCCLK/DMAE0, 36 P2.7/UCB0STE/UCA0CLK, 37 P3.0/UCB0SIMO/UCB0SDA, 38 P3.1/UCB0SOMI/UCB0SCL, 39 P3.2/UCB0CLK/UCA0STE, 40 P3.3/UCA0TXD/UCA0SIMO, 41 P3.4, 42 P3.5/TB0.5, 43 P3.6/TB0.6, 44 P3.7, 45 P4.0, 46 P4.1, 47 P4.2, 48 P4.3, 49 DVSS2, 50 DVCC2, 51 P4.4, 52 P4.5, 53 P4.6/PM_NONE, 54 P4.7/PM_NONE, 55 P5.6/TB0.0, 56 P5.7/TB0.1, 57 P7.4/TB0.2, 58 P7.5/TB0.3, 59 P7.6/TB0.4, 60 P7.7, 61 VSSU, 62 PU.0, 63 NC, 64 PU.1, 65 LDOI, 66 LDOO, 67 NC, 68 AVSS2, 69 P5.2/XT2IN, 70 P5.3/XT2OUT, 71 TEST/SBWTCK, 72 PJ.0/TDO, 73 PJ.1/TDI/TCLK, 74 PJ.2/TMS, 75 PJ.3/TCK, 76 ~{RS}T/NMI/SBWTDIO, 77 P6.0/CB0/A0, 78 P6.1/CB1/A1, 79 P6.2, 80 P6.3
text: 80:CB3/A3; 79:CB2/A2; 47:PM_UCB1SOMI/PM_UCB1SCL; 48:PM_UCB1CLK/PM_UCA1STE; 51:PM_UCA1TXD/PM_UCA1SIMO; 52:PM_UCA1RXD/PM_UCA1SOMI; 41:UCA0RXD/UCA0SOMI; 60:TB0CLK/MCLK; 44:TB0OUTH/SVMOUT; 45:PM_UCB1STE/PM_UCA1CLK; 46:PM_UCB1SIMO/PM_UCB1SDA

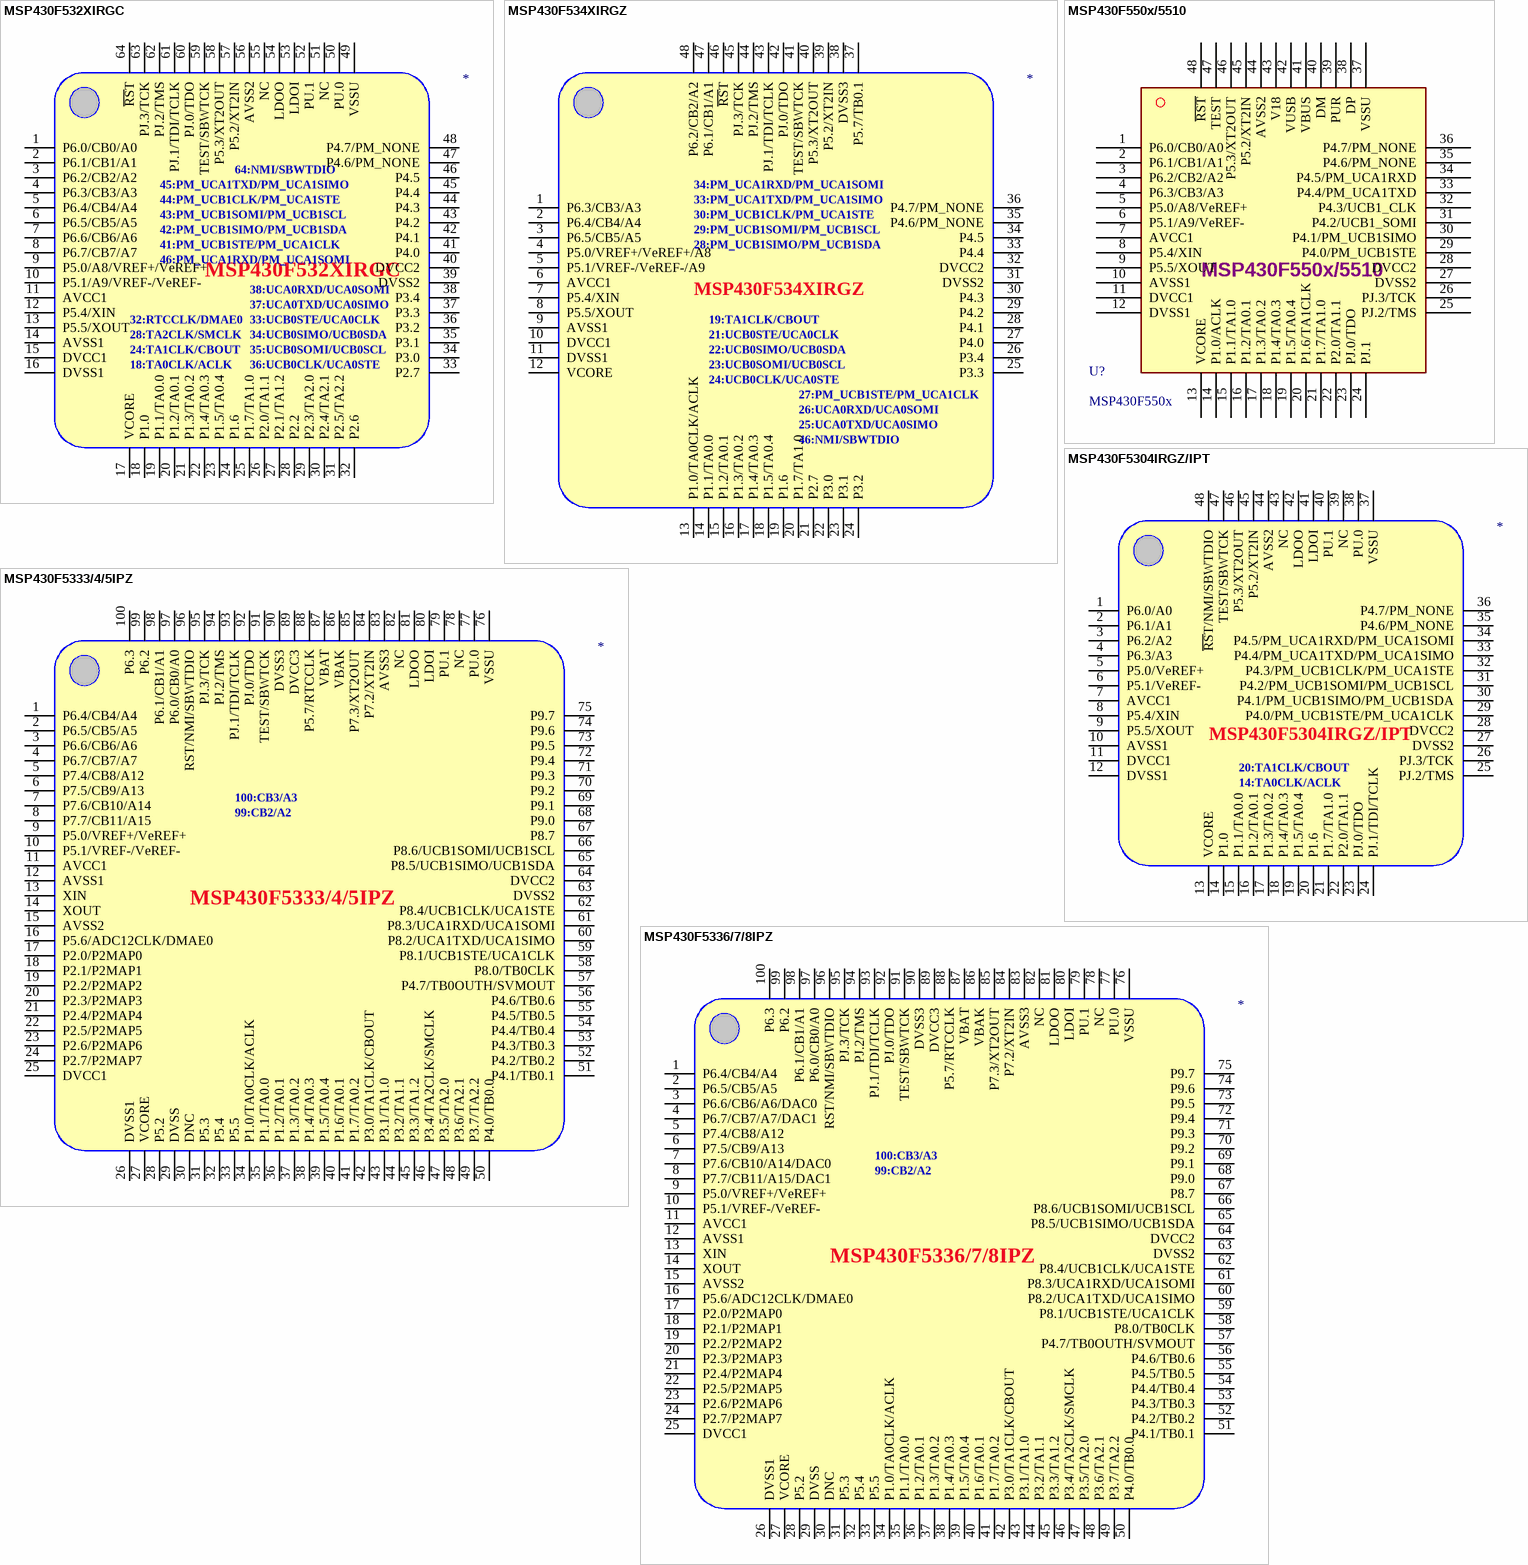
[diagram p13: symbols MSP430F532XIRGC to MSP430F5336/7/8IPZ]

## MSP430F532XIRGC
designator ?
pins: 1 P6.0/CB0/A0, 2 P6.1/CB1/A1, 3 P6.2/CB2/A2, 4 P6.3/CB3/A3, 5 P6.4/CB4/A4, 6 P6.5/CB5/A5, 7 P6.6/CB6/A6, 8 P6.7/CB7/A7, 9 P5.0/A8/VREF+/VeREF+, 10 P5.1/A9/VREF-/VeREF-, 11 AVCC1, 12 P5.4/XIN, 13 P5.5/XOUT, 14 AVSS1, 15 DVCC1, 16 DVSS1, 17 VCORE, 18 P1.0, 19 P1.1/TA0.0, 20 P1.2/TA0.1, 21 P1.3/TA0.2, 22 P1.4/TA0.3, 23 P1.5/TA0.4, 24 P1.6, 25 P1.7/TA1.0, 26 P2.0/TA1.1, 27 P2.1/TA1.2, 28 P2.2, 29 P2.3/TA2.0, 30 P2.4/TA2.1, 31 P2.5/TA2.2, 32 P2.6, 33 P2.7, 34 P3.0, 35 P3.1, 36 P3.2, 37 P3.3, 38 P3.4, 39 DVSS2, 40 DVCC2, 41 P4.0, 42 P4.1, 43 P4.2, 44 P4.3, 45 P4.4, 46 P4.5, 47 P4.6/PM_NONE, 48 P4.7/PM_NONE, 49 VSSU, 50 PU.0, 51 NC, 52 PU.1, 53 LDOI, 54 LDOO, 55 NC, 56 AVSS2, 57 P5.2/XT2IN, 58 P5.3/XT2OUT, 59 TEST/SBWTCK, 60 PJ.0/TDO, 61 PJ.1/TDI/TCLK, 62 PJ.2/TMS, 63 PJ.3/TCK, 64 ~{RS}T
text: 64:NMI/SBWTDIO; 45:PM_UCA1TXD/PM_UCA1SIMO; 44:PM_UCB1CLK/PM_UCA1STE; 43:PM_UCB1SOMI/PM_UCB1SCL; 42:PM_UCB1SIMO/PM_UCB1SDA; 41:PM_UCB1STE/PM_UCA1CLK; 46:PM_UCA1RXD/PM_UCA1SOMI; 38:UCA0RXD/UCA0SOMI; 37:UCA0TXD/UCA0SIMO; 32:RTCCLK/DMAE0; 33:UCB0STE/UCA0CLK; 28:TA2CLK/SMCLK; 34:UCB0SIMO/UCB0SDA; 24:TA1CLK/CBOUT; 35:UCB0SOMI/UCB0SCL; 18:TA0CLK/ACLK; 36:UCB0CLK/UCA0STE

## MSP430F534XIRGZ
designator ?
pins: 1 P6.3/CB3/A3, 2 P6.4/CB4/A4, 3 P6.5/CB5/A5, 4 P5.0/VREF+/VeREF+/A8, 5 P5.1/VREF-/VeREF-/A9, 6 AVCC1, 7 P5.4/XIN, 8 P5.5/XOUT, 9 AVSS1, 10 DVCC1, 11 DVSS1, 12 VCORE, 13 P1.0/TA0CLK/ACLK, 14 P1.1/TA0.0, 15 P1.2/TA0.1, 16 P1.3/TA0.2, 17 P1.4/TA0.3, 18 P1.5/TA0.4, 19 P1.6, 20 P1.7/TA1.0, 21 P2.7, 22 P3.0, 23 P3.1, 24 P3.2, 25 P3.3, 26 P3.4, 27 P4.0, 28 P4.1, 29 P4.2, 30 P4.3, 31 DVSS2, 32 DVCC2, 33 P4.4, 34 P4.5, 35 P4.6/PM_NONE, 36 P4.7/PM_NONE, 37 P5.7/TB0.1, 38 DVSS3, 39 P5.2/XT2IN, 40 P5.3/XT2OUT, 41 TEST/SBWTCK, 42 PJ.0/TDO, 43 PJ.1/TDI/TCLK, 44 PJ.2/TMS, 45 PJ.3/TCK, 46 ~{RS}T, 47 P6.1/CB1/A1, 48 P6.2/CB2/A2
text: 34:PM_UCA1RXD/PM_UCA1SOMI; 33:PM_UCA1TXD/PM_UCA1SIMO; 30:PM_UCB1CLK/PM_UCA1STE; 29:PM_UCB1SOMI/PM_UCB1SCL; 28:PM_UCB1SIMO/PM_UCB1SDA; 19:TA1CLK/CBOUT; 21:UCB0STE/UCA0CLK; 22:UCB0SIMO/UCB0SDA; 23:UCB0SOMI/UCB0SCL; 24:UCB0CLK/UCA0STE; 27:PM_UCB1STE/PM_UCA1CLK; 26:UCA0RXD/UCA0SOMI; 25:UCA0TXD/UCA0SIMO; 46:NMI/SBWTDIO

## MSP430F550x/5510
designator U?, comment MSP430F550x
footprint QFP-48-0.8MM
pins: 1 P6.0/CB0/A0, 2 P6.1/CB1/A1, 3 P6.2/CB2/A2, 4 P6.3/CB3/A3, 5 P5.0/A8/VeREF+, 6 P5.1/A9/VeREF-, 7 AVCC1, 8 P5.4/XIN, 9 P5.5/XOUT, 10 AVSS1, 11 DVCC1, 12 DVSS1, 13 VCORE, 14 P1.0/ACLK, 15 P1.1/TA1.0, 16 P1.2/TA0.1, 17 P1.3/TA0.2, 18 P1.4/TA0.3, 19 P1.5/TA0.4, 20 P1.6/TA1CLK, 21 P1.7/TA1.0, 22 P2.0/TA1.1, 23 PJ.0/TDO, 24 PJ.1, 25 PJ.2/TMS, 26 PJ.3/TCK, 27 DVSS2, 28 DVCC2, 29 P4.0/PM_UCB1STE, 30 P4.1/PM_UCB1SIMO, 31 P4.2/UCB1_SOMI, 32 P4.3/UCB1_CLK, 33 P4.4/PM_UCA1TXD, 34 P4.5/PM_UCA1RXD, 35 P4.6/PM_NONE, 36 P4.7/PM_NONE, 37 VSSU, 38 DP, 39 PUR, 40 DM, 41 VBUS, 42 VUSB, 43 V18, 44 AVSS2, 45 P5.2/XT2IN, 46 P5.3/XT2OUT, 47 TEST, 48 ~{RST}

## MSP430F5304IRGZ/IPT
designator ?
pins: 1 P6.0/A0, 2 P6.1/A1, 3 P6.2/A2, 4 P6.3/A3, 5 P5.0/VeREF+, 6 P5.1/VeREF-, 7 AVCC1, 8 P5.4/XIN, 9 P5.5/XOUT, 10 AVSS1, 11 DVCC1, 12 DVSS1, 13 VCORE, 14 P1.0, 15 P1.1/TA0.0, 16 P1.2/TA0.1, 17 P1.3/TA0.2, 18 P1.4/TA0.3, 19 P1.5/TA0.4, 20 P1.6, 21 P1.7/TA1.0, 22 P2.0/TA1.1, 23 PJ.0/TDO, 24 PJ.1/TDI/TCLK, 25 PJ.2/TMS, 26 PJ.3/TCK, 27 DVSS2, 28 DVCC2, 29 P4.0/PM_UCB1STE/PM_UCA1CLK, 30 P4.1/PM_UCB1SIMO/PM_UCB1SDA, 31 P4.2/PM_UCB1SOMI/PM_UCB1SCL, 32 P4.3/PM_UCB1CLK/PM_UCA1STE, 33 P4.4/PM_UCA1TXD/PM_UCA1SIMO, 34 P4.5/PM_UCA1RXD/PM_UCA1SOMI, 35 P4.6/PM_NONE, 36 P4.7/PM_NONE, 37 VSSU, 38 PU.0, 39 NC, 40 PU.1, 41 LDOI, 42 LDOO, 43 NC, 44 AVSS2, 45 P5.2/XT2IN, 46 P5.3/XT2OUT, 47 TEST/SBWTCK, 48 ~{RS}T/NMI/SBWTDIO
text: 20:TA1CLK/CBOUT; 14:TA0CLK/ACLK

## MSP430F5333/4/5IPZ
designator ?
pins: 1 P6.4/CB4/A4, 2 P6.5/CB5/A5, 3 P6.6/CB6/A6, 4 P6.7/CB7/A7, 5 P7.4/CB8/A12, 6 P7.5/CB9/A13, 7 P7.6/CB10/A14, 8 P7.7/CB11/A15, 9 P5.0/VREF+/VeREF+, 10 P5.1/VREF-/VeREF-, 11 AVCC1, 12 AVSS1, 13 XIN, 14 XOUT, 15 AVSS2, 16 P5.6/ADC12CLK/DMAE0, 17 P2.0/P2MAP0, 18 P2.1/P2MAP1, 19 P2.2/P2MAP2, 20 P2.3/P2MAP3, 21 P2.4/P2MAP4, 22 P2.5/P2MAP5, 23 P2.6/P2MAP6, 24 P2.7/P2MAP7, 25 DVCC1, 26 DVSS1, 27 VCORE, 28 P5.2, 29 DVSS, 30 DNC, 31 P5.3, 32 P5.4, 33 P5.5, 34 P1.0/TA0CLK/ACLK, 35 P1.1/TA0.0, 36 P1.2/TA0.1, 37 P1.3/TA0.2, 38 P1.4/TA0.3, 39 P1.5/TA0.4, 40 P1.6/TA0.1, 41 P1.7/TA0.2, 42 P3.0/TA1CLK/CBOUT, 43 P3.1/TA1.0, 44 P3.2/TA1.1, 45 P3.3/TA1.2, 46 P3.4/TA2CLK/SMCLK, 47 P3.5/TA2.0, 48 P3.6/TA2.1, 49 P3.7/TA2.2, 50 P4.0/TB0.0, 51 P4.1/TB0.1, 52 P4.2/TB0.2, 53 P4.3/TB0.3, 54 P4.4/TB0.4, 55 P4.5/TB0.5, 56 P4.6/TB0.6, 57 P4.7/TB0OUTH/SVMOUT, 58 P8.0/TB0CLK, 59 P8.1/UCB1STE/UCA1CLK, 60 P8.2/UCA1TXD/UCA1SIMO, 61 P8.3/UCA1RXD/UCA1SOMI, 62 P8.4/UCB1CLK/UCA1STE, 63 DVSS2, 64 DVCC2, 65 P8.5/UCB1SIMO/UCB1SDA, 66 P8.6/UCB1SOMI/UCB1SCL, 67 P8.7, 68 P9.0, 69 P9.1, 70 P9.2, 71 P9.3, 72 P9.4, 73 P9.5, 74 P9.6, 75 P9.7, 76 VSSU, 77 PU.0, 78 NC, 79 PU.1, 80 LDOI, 81 LDOO, 82 NC, 83 AVSS3, 84 P7.2/XT2IN, 85 P7.3/XT2OUT, 86 VBAK, 87 VBAT, 88 P5.7/RTCCLK, 89 DVCC3, 90 DVSS3, 91 TEST/SBWTCK, 92 PJ.0/TDO, 93 PJ.1/TDI/TCLK, 94 PJ.2/TMS, 95 PJ.3/TCK, 96 RST/NMI/SBWTDIO, 97 P6.0/CB0/A0, 98 P6.1/CB1/A1, 99 P6.2, 100 P6.3
text: 100:CB3/A3; 99:CB2/A2

## MSP430F5336/7/8IPZ
designator ?
pins: 1 P6.4/CB4/A4, 2 P6.5/CB5/A5, 3 P6.6/CB6/A6/DAC0, 4 P6.7/CB7/A7/DAC1, 5 P7.4/CB8/A12, 6 P7.5/CB9/A13, 7 P7.6/CB10/A14/DAC0, 8 P7.7/CB11/A15/DAC1, 9 P5.0/VREF+/VeREF+, 10 P5.1/VREF-/VeREF-, 11 AVCC1, 12 AVSS1, 13 XIN, 14 XOUT, 15 AVSS2, 16 P5.6/ADC12CLK/DMAE0, 17 P2.0/P2MAP0, 18 P2.1/P2MAP1, 19 P2.2/P2MAP2, 20 P2.3/P2MAP3, 21 P2.4/P2MAP4, 22 P2.5/P2MAP5, 23 P2.6/P2MAP6, 24 P2.7/P2MAP7, 25 DVCC1, 26 DVSS1, 27 VCORE, 28 P5.2, 29 DVSS, 30 DNC, 31 P5.3, 32 P5.4, 33 P5.5, 34 P1.0/TA0CLK/ACLK, 35 P1.1/TA0.0, 36 P1.2/TA0.1, 37 P1.3/TA0.2, 38 P1.4/TA0.3, 39 P1.5/TA0.4, 40 P1.6/TA0.1, 41 P1.7/TA0.2, 42 P3.0/TA1CLK/CBOUT, 43 P3.1/TA1.0, 44 P3.2/TA1.1, 45 P3.3/TA1.2, 46 P3.4/TA2CLK/SMCLK, 47 P3.5/TA2.0, 48 P3.6/TA2.1, 49 P3.7/TA2.2, 50 P4.0/TB0.0, 51 P4.1/TB0.1, 52 P4.2/TB0.2, 53 P4.3/TB0.3, 54 P4.4/TB0.4, 55 P4.5/TB0.5, 56 P4.6/TB0.6, 57 P4.7/TB0OUTH/SVMOUT, 58 P8.0/TB0CLK, 59 P8.1/UCB1STE/UCA1CLK, 60 P8.2/UCA1TXD/UCA1SIMO, 61 P8.3/UCA1RXD/UCA1SOMI, 62 P8.4/UCB1CLK/UCA1STE, 63 DVSS2, 64 DVCC2, 65 P8.5/UCB1SIMO/UCB1SDA, 66 P8.6/UCB1SOMI/UCB1SCL, 67 P8.7, 68 P9.0, 69 P9.1, 70 P9.2, 71 P9.3, 72 P9.4, 73 P9.5, 74 P9.6, 75 P9.7, 76 VSSU, 77 PU.0, 78 NC, 79 PU.1, 80 LDOI, 81 LDOO, 82 NC, 83 AVSS3, 84 P7.2/XT2IN, 85 P7.3/XT2OUT, 86 VBAK, 87 VBAT, 88 P5.7/RTCCLK, 89 DVCC3, 90 DVSS3, 91 TEST/SBWTCK, 92 PJ.0/TDO, 93 PJ.1/TDI/TCLK, 94 PJ.2/TMS, 95 PJ.3/TCK, 96 RST/NMI/SBWTDIO, 97 P6.0/CB0/A0, 98 P6.1/CB1/A1, 99 P6.2, 100 P6.3
text: 100:CB3/A3; 99:CB2/A2

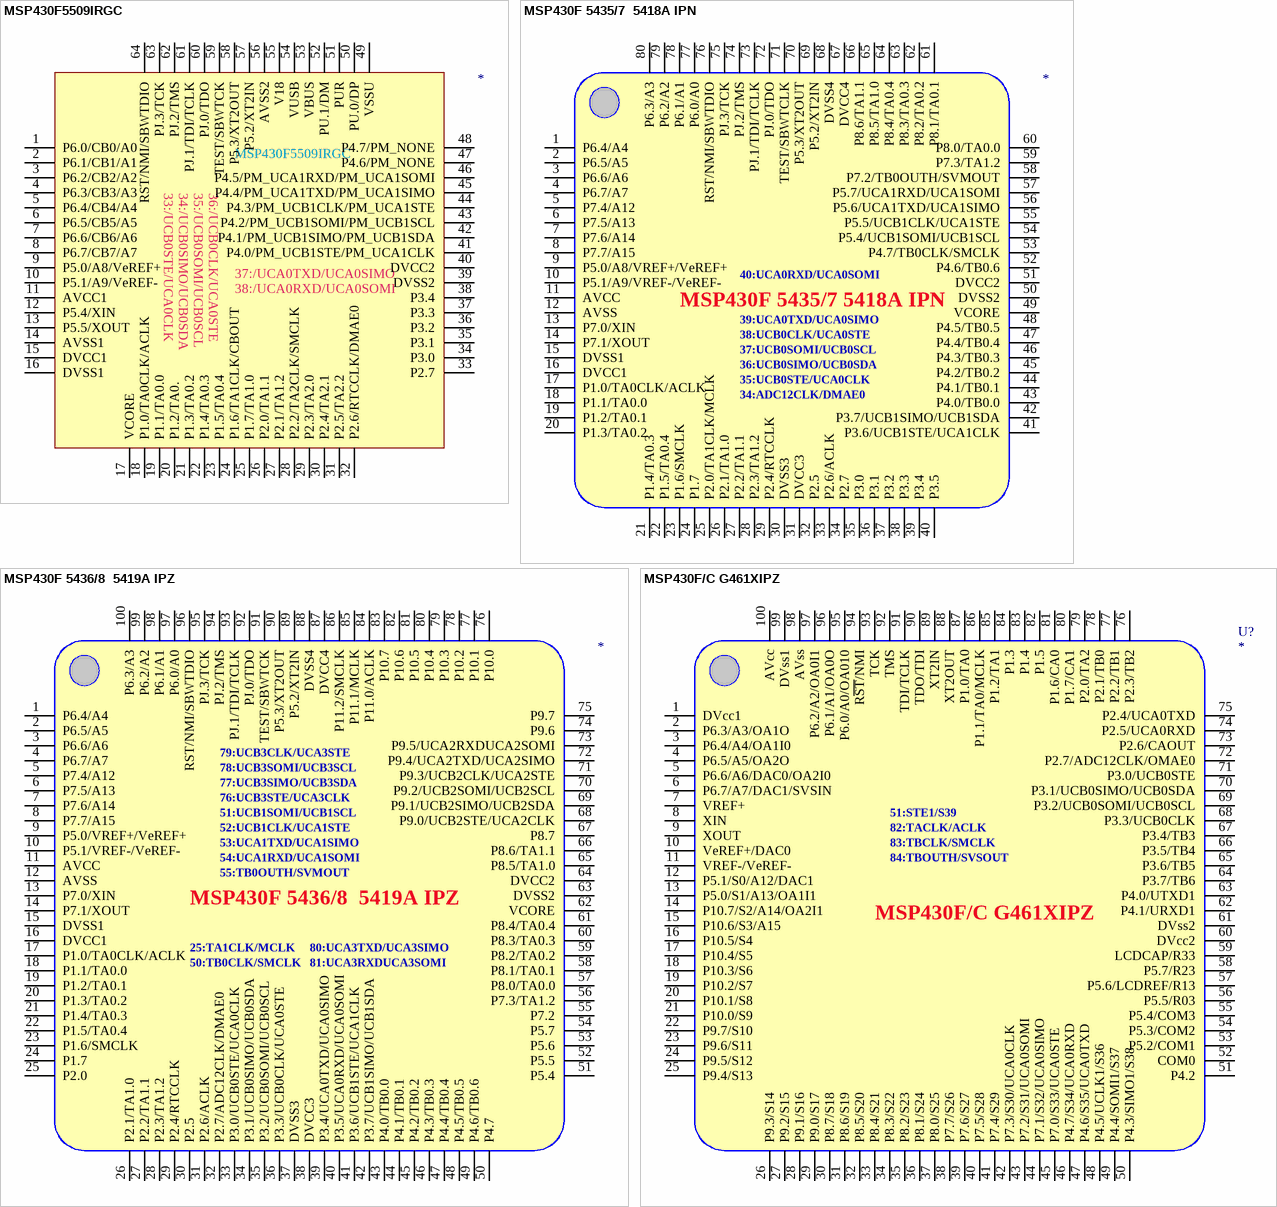
[diagram p14: symbols MSP430F5509IRGC to MSP430F/C G461XIPZ]

## MSP430F5509IRGC
designator ?
pins: 1 P6.0/CB0/A0 (oe), 2 P6.1/CB1/A1 (oe), 3 P6.2/CB2/A2 (oe), 4 P6.3/CB3/A3 (oe), 5 P6.4/CB4/A4 (oe), 6 P6.5/CB5/A5 (oe), 7 P6.6/CB6/A6 (oe), 8 P6.7/CB7/A7 (oe), 9 P5.0/A8/VeREF+ (oe), 10 P5.1/A9/VeREF- (oe), 11 AVCC1 (oe), 12 P5.4/XIN (oe), 13 P5.5/XOUT (oe), 14 AVSS1 (oe), 15 DVCC1 (oe), 16 DVSS1 (oe), 17 VCORE (oe), 18 P1.0/TA0CLK/ACLK (oe), 19 P1.1/TA0.0 (oe), 20 P1.2/TA0. (oe), 21 P1.3/TA0.2 (oe), 22 P1.4/TA0.3 (oe), 23 P1.5/TA0.4 (oe), 24 P1.6/TA1CLK/CBOUT (oe), 25 P1.7/TA1.0 (oe), 26 P2.0/TA1.1 (oe), 27 P2.1/TA1.2 (oe), 28 P2.2/TA2CLK/SMCLK (oe), 29 P2.3/TA2.0 (oe), 30 P2.4/TA2.1 (oe), 31 P2.5/TA2.2 (oe), 32 P2.6/RTCCLK/DMAE0 (oe), 33 P2.7 (oe), 34 P3.0 (oe), 35 P3.1 (oe), 36 P3.2 (oe), 37 P3.3 (oe), 38 P3.4 (oe), 39 DVSS2 (oe), 40 DVCC2 (oe), 41 P4.0/PM_UCB1STE/PM_UCA1CLK (oe), 42 P4.1/PM_UCB1SIMO/PM_UCB1SDA (oe), 43 P4.2/PM_UCB1SOMI/PM_UCB1SCL (oe), 44 P4.3/PM_UCB1CLK/PM_UCA1STE (oe), 45 P4.4/PM_UCA1TXD/PM_UCA1SIMO (oe), 46 P4.5/PM_UCA1RXD/PM_UCA1SOMI (oe), 47 P4.6/PM_NONE (oe), 48 P4.7/PM_NONE (oe), 49 VSSU (oe), 50 PU.0/DP (oe), 51 PUR (oe), 52 PU.1/DM (oe), 53 VBUS (oe), 54 VUSB (oe), 55 V18 (oe), 56 AVSS2 (oe), 57 P5.2/XT2IN (oe), 58 P5.3/XT2OUT (oe), 59 TEST/SBWTCK (oe), 60 PJ.0/TDO (oe), 61 PJ.1/TDI/TCLK (oe), 62 PJ.2/TMS (oe), 63 PJ.3/TCK (oe), 64 RST/NMI/SBWTDIO (oe)
text: 33:/UCB0STE/UCA0CLK; 34:/UCB0SIMO/UCB0SDA; 35:/UCB0SOMI/UCB0SCL; 36:/UCB0CLK/UCA0STE; 37:/UCA0TXD/UCA0SIMO; 38:/UCA0RXD/UCA0SOMI

## MSP430F 5435/7  5418A IPN
designator ?
pins: 1 P6.4/A4, 2 P6.5/A5, 3 P6.6/A6, 4 P6.7/A7, 5 P7.4/A12, 6 P7.5/A13, 7 P7.6/A14, 8 P7.7/A15, 9 P5.0/A8/VREF+/VeREF+, 10 P5.1/A9/VREF-/VeREF-, 11 AVCC, 12 AVSS, 13 P7.0/XIN, 14 P7.1/XOUT, 15 DVSS1, 16 DVCC1, 17 P1.0/TA0CLK/ACLK, 18 P1.1/TA0.0, 19 P1.2/TA0.1, 20 P1.3/TA0.2, 21 P1.4/TA0.3, 22 P1.5/TA0.4, 23 P1.6/SMCLK, 24 P1.7, 25 P2.0/TA1CLK/MCLK, 26 P2.1/TA1.0, 27 P2.2/TA1.1, 28 P2.3/TA1.2, 29 P2.4/RTCCLK, 30 DVSS3, 31 DVCC3, 32 P2.5, 33 P2.6/ACLK, 34 P2.7, 35 P3.0, 36 P3.1, 37 P3.2, 38 P3.3, 39 P3.4, 40 P3.5, 41 P3.6/UCB1STE/UCA1CLK, 42 P3.7/UCB1SIMO/UCB1SDA, 43 P4.0/TB0.0, 44 P4.1/TB0.1, 45 P4.2/TB0.2, 46 P4.3/TB0.3, 47 P4.4/TB0.4, 48 P4.5/TB0.5, 49 VCORE, 50 DVSS2, 51 DVCC2, 52 P4.6/TB0.6, 53 P4.7/TB0CLK/SMCLK, 54 P5.4/UCB1SOMI/UCB1SCL, 55 P5.5/UCB1CLK/UCA1STE, 56 P5.6/UCA1TXD/UCA1SIMO, 57 P5.7/UCA1RXD/UCA1SOMI, 58 P7.2/TB0OUTH/SVMOUT, 59 P7.3/TA1.2, 60 P8.0/TA0.0, 61 P8.1/TA0.1, 62 P8.2/TA0.2, 63 P8.3/TA0.3, 64 P8.4/TA0.4, 65 P8.5/TA1.0, 66 P8.6/TA1.1, 67 DVCC4, 68 DVSS4, 69 P5.2/XT2IN, 70 P5.3/XT2OUT, 71 TEST/SBWTCLK, 72 PJ.0/TDO, 73 PJ.1/TDI/TCLK, 74 PJ.2/TMS, 75 PJ.3/TCK, 76 RST/NMI/SBWTDIO, 77 P6.0/A0, 78 P6.1/A1, 79 P6.2/A2, 80 P6.3/A3
text: 40:UCA0RXD/UCA0SOMI; MSP430F 5435/7 5418A IPN; 39:UCA0TXD/UCA0SIMO; 38:UCB0CLK/UCA0STE; 37:UCB0SOMI/UCB0SCL; 36:UCB0SIMO/UCB0SDA; 35:UCB0STE/UCA0CLK; 34:ADC12CLK/DMAE0

## MSP430F 5436/8  5419A IPZ
designator ?
pins: 1 P6.4/A4, 2 P6.5/A5, 3 P6.6/A6, 4 P6.7/A7, 5 P7.4/A12, 6 P7.5/A13, 7 P7.6/A14, 8 P7.7/A15, 9 P5.0/VREF+/VeREF+, 10 P5.1/VREF-/VeREF-, 11 AVCC, 12 AVSS, 13 P7.0/XIN, 14 P7.1/XOUT, 15 DVSS1, 16 DVCC1, 17 P1.0/TA0CLK/ACLK, 18 P1.1/TA0.0, 19 P1.2/TA0.1, 20 P1.3/TA0.2, 21 P1.4/TA0.3, 22 P1.5/TA0.4, 23 P1.6/SMCLK, 24 P1.7, 25 P2.0, 26 P2.1/TA1.0, 27 P2.2/TA1.1, 28 P2.3/TA1.2, 29 P2.4/RTCCLK, 30 P2.5, 31 P2.6/ACLK, 32 P2.7/ADC12CLK/DMAE0, 33 P3.0/UCB0STE/UCA0CLK, 34 P3.1/UCB0SIMO/UCB0SDA, 35 P3.2/UCB0SOMI/UCB0SCL, 36 P3.3/UCB0CLK/UCA0STE, 37 DVSS3, 38 DVCC3, 39 P3.4/UCA0TXD/UCA0SIMO, 40 P3.5/UCA0RXD/UCA0SOMI, 41 P3.6/UCB1STE/UCA1CLK, 42 P3.7/UCB1SIMO/UCB1SDA, 43 P4.0/TB0.0, 44 P4.1/TB0.1, 45 P4.2/TB0.2, 46 P4.3/TB0.3, 47 P4.4/TB0.4, 48 P4.5/TB0.5, 49 P4.6/TB0.6, 50 P4.7, 51 P5.4, 52 P5.5, 53 P5.6, 54 P5.7, 55 P7.2, 56 P7.3/TA1.2, 57 P8.0/TA0.0, 58 P8.1/TA0.1, 59 P8.2/TA0.2, 60 P8.3/TA0.3, 61 P8.4/TA0.4, 62 VCORE, 63 DVSS2, 64 DVCC2, 65 P8.5/TA1.0, 66 P8.6/TA1.1, 67 P8.7, 68 P9.0/UCB2STE/UCA2CLK, 69 P9.1/UCB2SIMO/UCB2SDA, 70 P9.2/UCB2SOMI/UCB2SCL, 71 P9.3/UCB2CLK/UCA2STE, 72 P9.4/UCA2TXD/UCA2SIMO, 73 P9.5/UCA2RXDUCA2SOMI, 74 P9.6, 75 P9.7, 76 P10.0, 77 P10.1, 78 P10.2, 79 P10.3, 80 P10.4, 81 P10.5, 82 P10.6, 83 P10.7, 84 P11.0/ACLK, 85 P11.1/MCLK, 86 P11.2/SMCLK, 87 DVCC4, 88 DVSS4, 89 P5.2/XT2IN, 90 P5.3/XT2OUT, 91 TEST/SBWTCK, 92 PJ.0/TDO, 93 PJ.1/TDI/TCLK, 94 PJ.2/TMS, 95 PJ.3/TCK, 96 RST/NMI/SBWTDIO, 97 P6.0/A0, 98 P6.1/A1, 99 P6.2/A2, 100 P6.3/A3
text: 79:UCB3CLK/UCA3STE; 78:UCB3SOMI/UCB3SCL; 77:UCB3SIMO/UCB3SDA; 76:UCB3STE/UCA3CLK; 51:UCB1SOMI/UCB1SCL; 52:UCB1CLK/UCA1STE; 53:UCA1TXD/UCA1SIMO; 54:UCA1RXD/UCA1SOMI; 55:TB0OUTH/SVMOUT; 25:TA1CLK/MCLK; 80:UCA3TXD/UCA3SIMO; 50:TB0CLK/SMCLK; 81:UCA3RXDUCA3SOMI

## MSP430F/C G461XIPZ
designator U?
footprint S-PQFP-G100
pins: 1 DVcc1, 2 P6.3/A3/OA1O, 3 P6.4/A4/OA1I0, 4 P6.5/A5/OA2O, 5 P6.6/A6/DAC0/OA2I0, 6 P6.7/A7/DAC1/SVSIN, 7 VREF+, 8 XIN, 9 XOUT, 10 VeREF+/DAC0, 11 VREF-/VeREF-, 12 P5.1/S0/A12/DAC1, 13 P5.0/S1/A13/OA1I1, 14 P10.7/S2/A14/OA2I1, 15 P10.6/S3/A15, 16 P10.5/S4, 17 P10.4/S5, 18 P10.3/S6, 19 P10.2/S7, 20 P10.1/S8, 21 P10.0/S9, 22 P9.7/S10, 23 P9.6/S11, 24 P9.5/S12, 25 P9.4/S13, 26 P9.3/S14, 27 P9.2/S15, 28 P9.1/S16, 29 P9.0/S17, 30 P8.7/S18, 31 P8.6/S19, 32 P8.5/S20, 33 P8.4/S21, 34 P8.3/S22, 35 P8.2/S23, 36 P8.1/S24, 37 P8.0/S25, 38 P7.7/S26, 39 P7.6/S27, 40 P7.5/S28, 41 P7.4/S29, 42 P7.3/S30/UCA0CLK, 43 P7.2/S31/UCA0SOMI, 44 P7.1/S32/UCA0SIMO, 45 P7.0/S33/UCA0STE, 46 P4.7/S34/UCA0RXD, 47 P4.6/S35/UCA0TXD, 48 P4.5/UCLK1/S36, 49 P4.4/SOMI1/S37, 50 P4.3/SIMO1/S38, 51 P4.2, 52 COM0, 53 P5.2/COM1, 54 P5.3/COM2, 55 P5.4/COM3, 56 P5.5/R03, 57 P5.6/LCDREF/R13, 58 P5.7/R23, 59 LCDCAP/R33, 60 DVcc2, 61 DVss2, 62 P4.1/URXD1, 63 P4.0/UTXD1, 64 P3.7/TB6, 65 P3.6/TB5, 66 P3.5/TB4, 67 P3.4/TB3, 68 P3.3/UCB0CLK, 69 P3.2/UCB0SOMI/UCB0SCL, 70 P3.1/UCB0SIMO/UCB0SDA, 71 P3.0/UCB0STE, 72 P2.7/ADC12CLK/OMAE0, 73 P2.6/CAOUT, 74 P2.5/UCA0RXD, 75 P2.4/UCA0TXD, 76 P2.3/TB2, 77 P2.2/TB1, 78 P2.1/TB0, 79 P2.0/TA2, 80 P1.7/CA1, 81 P1.6/CA0, 82 P1.5, 83 P1.4, 84 P1.3, 85 P1.2/TA1, 86 P1.1/TA0/MCLK, 87 P1.0/TA0, 88 XT2OUT, 89 XT2IN, 90 TDO/TDI, 91 TDI/TCLK, 92 TMS, 93 TCK, 94 R~{ST}/NMI, 95 P6.0/A0/OA010, 96 P6.1/A1/OA0O, 97 P6.2/A2/OA0I1, 98 AVss, 99 DVss1, 100 AVcc
text: 51:STE1/S39; 82:TACLK/ACLK; 83:TBCLK/SMCLK; 84:TBOUTH/SVSOUT

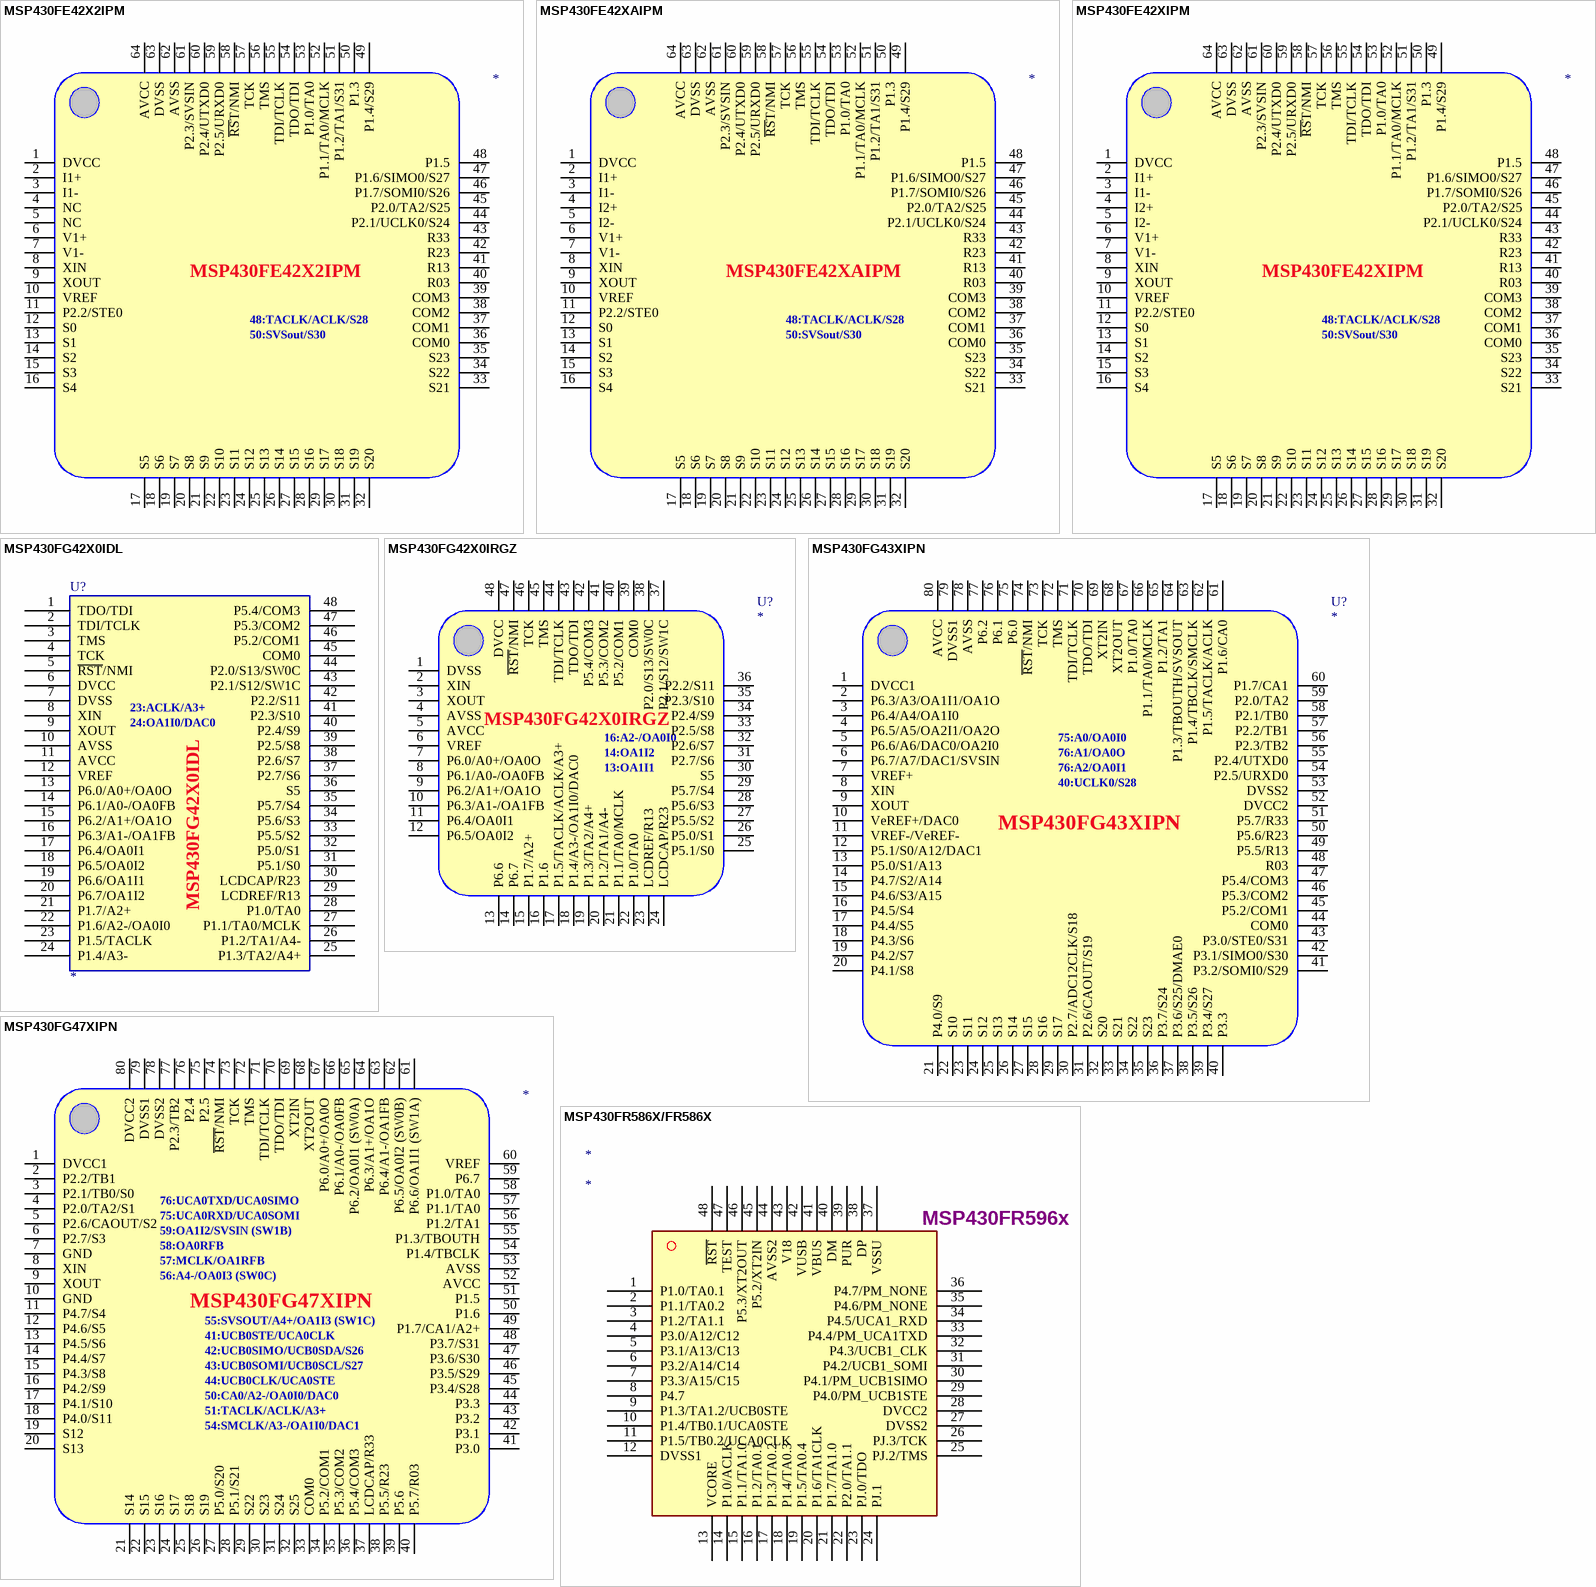
[diagram p15: symbols MSP430FE42X2IPM to MSP430FR586X/FR586X]

## MSP430FE42X2IPM
designator ?
pins: 1 DVCC, 2 I1+, 3 I1-, 4 NC, 5 NC, 6 V1+, 7 V1-, 8 XIN, 9 XOUT, 10 VREF, 11 P2.2/STE0, 12 S0, 13 S1, 14 S2, 15 S3, 16 S4, 17 S5, 18 S6, 19 S7, 20 S8, 21 S9, 22 S10, 23 S11, 24 S12, 25 S13, 26 S14, 27 S15, 28 S16, 29 S17, 30 S18, 31 S19, 32 S20, 33 S21, 34 S22, 35 S23, 36 COM0, 37 COM1, 38 COM2, 39 COM3, 40 R03, 41 R13, 42 R23, 43 R33, 44 P2.1/UCLK0/S24, 45 P2.0/TA2/S25, 46 P1.7/SOMI0/S26, 47 P1.6/SIMO0/S27, 48 P1.5, 49 P1.4/S29, 50 P1.3, 51 P1.2/TA1/S31, 52 P1.1/TA0/MCLK, 53 P1.0/TA0, 54 TDO/TDI, 55 TDI/TCLK, 56 TMS, 57 TCK, 58 ~{RS}T/NMI, 59 P2.5/URXD0, 60 P2.4/UTXD0, 61 P2.3/SVSIN, 62 AVSS, 63 DVSS, 64 AVCC
text: 48:TACLK/ACLK/S28; 50:SVSout/S30

## MSP430FE42XAIPM
designator ?
pins: 1 DVCC, 2 I1+, 3 I1-, 4 I2+, 5 I2-, 6 V1+, 7 V1-, 8 XIN, 9 XOUT, 10 VREF, 11 P2.2/STE0, 12 S0, 13 S1, 14 S2, 15 S3, 16 S4, 17 S5, 18 S6, 19 S7, 20 S8, 21 S9, 22 S10, 23 S11, 24 S12, 25 S13, 26 S14, 27 S15, 28 S16, 29 S17, 30 S18, 31 S19, 32 S20, 33 S21, 34 S22, 35 S23, 36 COM0, 37 COM1, 38 COM2, 39 COM3, 40 R03, 41 R13, 42 R23, 43 R33, 44 P2.1/UCLK0/S24, 45 P2.0/TA2/S25, 46 P1.7/SOMI0/S26, 47 P1.6/SIMO0/S27, 48 P1.5, 49 P1.4/S29, 50 P1.3, 51 P1.2/TA1/S31, 52 P1.1/TA0/MCLK, 53 P1.0/TA0, 54 TDO/TDI, 55 TDI/TCLK, 56 TMS, 57 TCK, 58 ~{RS}T/NMI, 59 P2.5/URXD0, 60 P2.4/UTXD0, 61 P2.3/SVSIN, 62 AVSS, 63 DVSS, 64 AVCC
text: 48:TACLK/ACLK/S28; 50:SVSout/S30

## MSP430FE42XIPM
designator ?
pins: 1 DVCC, 2 I1+, 3 I1-, 4 I2+, 5 I2-, 6 V1+, 7 V1-, 8 XIN, 9 XOUT, 10 VREF, 11 P2.2/STE0, 12 S0, 13 S1, 14 S2, 15 S3, 16 S4, 17 S5, 18 S6, 19 S7, 20 S8, 21 S9, 22 S10, 23 S11, 24 S12, 25 S13, 26 S14, 27 S15, 28 S16, 29 S17, 30 S18, 31 S19, 32 S20, 33 S21, 34 S22, 35 S23, 36 COM0, 37 COM1, 38 COM2, 39 COM3, 40 R03, 41 R13, 42 R23, 43 R33, 44 P2.1/UCLK0/S24, 45 P2.0/TA2/S25, 46 P1.7/SOMI0/S26, 47 P1.6/SIMO0/S27, 48 P1.5, 49 P1.4/S29, 50 P1.3, 51 P1.2/TA1/S31, 52 P1.1/TA0/MCLK, 53 P1.0/TA0, 54 TDO/TDI, 55 TDI/TCLK, 56 TMS, 57 TCK, 58 ~{RS}T/NMI, 59 P2.5/URXD0, 60 P2.4/UTXD0, 61 P2.3/SVSIN, 62 AVSS, 63 DVSS, 64 AVCC
text: 48:TACLK/ACLK/S28; 50:SVSout/S30

## MSP430FG42X0IDL
designator U?
footprint SSOP48
pins: 1 TDO/TDI, 2 TDI/TCLK (power), 3 TMS (power), 4 TCK (power), 5 ~{RST}/NMI (power), 6 DVCC (power), 7 DVSS (power), 8 XIN (power), 9 XOUT (power), 10 AVSS (power), 11 AVCC (power), 12 VREF (power), 13 P6.0/A0+/OA0O (power), 14 P6.1/A0-/OA0FB (power), 15 P6.2/A1+/OA1O (power), 16 P6.3/A1-/OA1FB (power), 17 P6.4/OA0I1 (power), 18 P6.5/OA0I2 (power), 19 P6.6/OA1I1 (power), 20 P6.7/OA1I2 (power), 21 P1.7/A2+, 22 P1.6/A2-/OA0I0, 23 P1.5/TACLK, 24 P1.4/A3-, 25 P1.3/TA2/A4+, 26 P1.2/TA1/A4-, 27 P1.1/TA0/MCLK, 28 P1.0/TA0, 29 LCDREF/R13, 30 LCDCAP/R23, 31 P5.1/S0, 32 P5.0/S1, 33 P5.5/S2, 34 P5.6/S3, 35 P5.7/S4, 36 S5, 37 P2.7/S6, 38 P2.6/S7, 39 P2.5/S8, 40 P2.4/S9, 41 P2.3/S10, 42 P2.2/S11, 43 P2.1/S12/SW1C, 44 P2.0/S13/SW0C, 45 COM0, 46 P5.2/COM1, 47 P5.3/COM2, 48 P5.4/COM3
text: 23:ACLK/A3+; 24:OA1I0/DAC0

## MSP430FG42X0IRGZ
designator U?
footprint QLP48
pins: 1 DVSS, 2 XIN, 3 XOUT, 4 AVSS, 5 AVCC, 6 VREF, 7 P6.0/A0+/OA0O, 8 P6.1/A0-/OA0FB, 9 P6.2/A1+/OA1O, 10 P6.3/A1-/OA1FB, 11 P6.4/OA0I1, 12 P6.5/OA0I2, 13 P6.6, 14 P6.7, 15 P1.7/A2+, 16 P1.6, 17 P1.5/TACLK/ACLK/A3+, 18 P1.4/A3-/OA1I0/DAC0, 19 P1.3/TA2/A4+, 20 P1.2/TA1/A4-, 21 P1.1/TA0/MCLK, 22 P1.0/TA0, 23 LCDREF/R13, 24 LCDCAP/R23, 25 P5.1/S0, 26 P5.0/S1, 27 P5.5/S2, 28 P5.6/S3, 29 P5.7/S4, 30 S5, 31 P2.7/S6, 32 P2.6/S7, 33 P2.5/S8, 34 P2.4/S9, 35 P2.3/S10, 36 P2.2/S11, 37 P2.1/S12/SW1C, 38 P2.0/S13/SW0C, 39 COM0, 40 P5.2/COM1, 41 P5.3/COM2, 42 P5.4/COM3, 43 TDO/TDI, 44 TDI/TCLK, 45 TMS, 46 TCK, 47 ~{RST}/NMI, 48 DVCC
text: 16:A2-/OA0I0; 14:OA1I2; 13:OA1I1

## MSP430FG43XIPN
designator U?
footprint S-PQFP-G80
pins: 1 DVCC1, 2 P6.3/A3/OA1I1/OA1O, 3 P6.4/A4/OA1I0, 4 P6.5/A5/OA2I1/OA2O, 5 P6.6/A6/DAC0/OA2I0, 6 P6.7/A7/DAC1/SVSIN, 7 VREF+, 8 XIN, 9 XOUT, 10 VeREF+/DAC0, 11 VREF-/VeREF-, 12 P5.1/S0/A12/DAC1, 13 P5.0/S1/A13, 14 P4.7/S2/A14, 15 P4.6/S3/A15, 16 P4.5/S4, 17 P4.4/S5, 18 P4.3/S6, 19 P4.2/S7, 20 P4.1/S8, 21 P4.0/S9, 22 S10, 23 S11, 24 S12, 25 S13, 26 S14, 27 S15, 28 S16, 29 S17, 30 P2.7/ADC12CLK/S18, 31 P2.6/CAOUT/S19, 32 S20, 33 S21, 34 S22, 35 S23, 36 P3.7/S24, 37 P3.6/S25/DMAE0, 38 P3.5/S26, 39 P3.4/S27, 40 P3.3, 41 P3.2/SOMI0/S29, 42 P3.1/SIMO0/S30, 43 P3.0/STE0/S31, 44 COM0, 45 P5.2/COM1, 46 P5.3/COM2, 47 P5.4/COM3, 48 R03, 49 P5.5/R13, 50 P5.6/R23, 51 P5.7/R33, 52 DVCC2, 53 DVSS2, 54 P2.5/URXD0, 55 P2.4/UTXD0, 56 P2.3/TB2, 57 P2.2/TB1, 58 P2.1/TB0, 59 P2.0/TA2, 60 P1.7/CA1, 61 P1.6/CA0, 62 P1.5/TACLK/ACLK, 63 P1.4/TBCLK/SMCLK, 64 P1.3/TBOUTH/SVSOUT, 65 P1.2/TA1, 66 P1.1/TA0/MCLK, 67 P1.0/TA0, 68 XT2OUT, 69 XT2IN, 70 TDO/TDI, 71 TDI/TCLK, 72 TMS, 73 TCK, 74 ~{RST}/NMI, 75 P6.0, 76 P6.1, 77 P6.2, 78 AVSS, 79 DVSS1, 80 AVCC
text: 75:A0/OA0I0; 76:A1/OA0O; 76:A2/OA0I1; 40:UCLK0/S28

## MSP430FG47XIPN
designator ?
pins: 1 DVCC1, 2 P2.2/TB1, 3 P2.1/TB0/S0, 4 P2.0/TA2/S1, 5 P2.6/CAOUT/S2, 6 P2.7/S3, 7 GND, 8 XIN, 9 XOUT, 10 GND, 11 P4.7/S4, 12 P4.6/S5, 13 P4.5/S6, 14 P4.4/S7, 15 P4.3/S8, 16 P4.2/S9, 17 P4.1/S10    , 18 P4.0/S11, 19 S12, 20 S13, 21 S14, 22 S15, 23 S16, 24 S17, 25 S18, 26 S19, 27 P5.0/S20, 28 P5.1/S21, 29 S22, 30 S23, 31 S24, 32 S25, 33 COM0, 34 P5.2/COM1, 35 P5.3/COM2, 36 P5.4/COM3, 37 LCDCAP/R33, 38 P5.5/R23, 39 P5.6, 40 P5.7/R03, 41 P3.0, 42 P3.1, 43 P3.2, 44 P3.3, 45 P3.4/S28, 46 P3.5/S29, 47 P3.6/S30, 48 P3.7/S31, 49 P1.7/CA1/A2+, 50 P1.6, 51 P1.5, 52 AVCC, 53 AVSS, 54 P1.4/TBCLK, 55 P1.3/TBOUTH, 56 P1.2/TA1, 57 P1.1/TA0, 58 P1.0/TA0, 59 P6.7, 60 VREF, 61 P6.6/OA1I1 (SW1A), 62 P6.5/OA0I2 (SW0B), 63 P6.4/A1-/OA1FB, 64 P6.3/A1+/OA1O, 65 P6.2/OA0I1 (SW0A), 66 P6.1/A0-/OA0FB, 67 P6.0/A0+/OA0O, 68 XT2OUT, 69 XT2IN, 70 TDO/TDI, 71 TDI/TCLK, 72 TMS, 73 TCK, 74 ~{RST}/NMI, 75 P2.5, 76 P2.4, 77 P2.3/TB2, 78 DVSS2, 79 DVSS1, 80 DVCC2
text: 76:UCA0TXD/UCA0SIMO; 75:UCA0RXD/UCA0SOMI; 59:OA1I2/SVSIN (SW1B); 58:OA0RFB; 57:MCLK/OA1RFB; 56:A4-/OA0I3 (SW0C); 55:SVSOUT/A4+/OA1I3 (SW1C); 41:UCB0STE/UCA0CLK; 42:UCB0SIMO/UCB0SDA/S26; 43:UCB0SOMI/UCB0SCL/S27; 44:UCB0CLK/UCA0STE; 50:CA0/A2-/OA0I0/DAC0; 51:TACLK/ACLK/A3+; 54:SMCLK/A3-/OA1I0/DAC1

## MSP430FR586X/FR586X
designator *
pins: 1 P1.0/TA0.1, 2 P1.1/TA0.2, 3 P1.2/TA1.1, 4 P3.0/A12/C12, 5 P3.1/A13/C13, 6 P3.2/A14/C14, 7 P3.3/A15/C15, 8 P4.7, 9 P1.3/TA1.2/UCB0STE, 10 P1.4/TB0.1/UCA0STE, 11 P1.5/TB0.2/UCA0CLK, 12 DVSS1, 13 VCORE, 14 P1.0/ACLK, 15 P1.1/TA1.0, 16 P1.2/TA0.1, 17 P1.3/TA0.2, 18 P1.4/TA0.3, 19 P1.5/TA0.4, 20 P1.6/TA1CLK, 21 P1.7/TA1.0, 22 P2.0/TA1.1, 23 PJ.0/TDO, 24 PJ.1, 25 PJ.2/TMS, 26 PJ.3/TCK, 27 DVSS2, 28 DVCC2, 29 P4.0/PM_UCB1STE, 30 P4.1/PM_UCB1SIMO, 31 P4.2/UCB1_SOMI, 32 P4.3/UCB1_CLK, 33 P4.4/PM_UCA1TXD, 34 P4.5/UCA1_RXD, 35 P4.6/PM_NONE, 36 P4.7/PM_NONE, 37 VSSU, 38 DP, 39 PUR, 40 DM, 41 VBUS, 42 VUSB, 43 V18, 44 AVSS2, 45 P5.2/XT2IN, 46 P5.3/XT2OUT, 47 TEST, 48 ~{RST}
text: MSP430FR596x

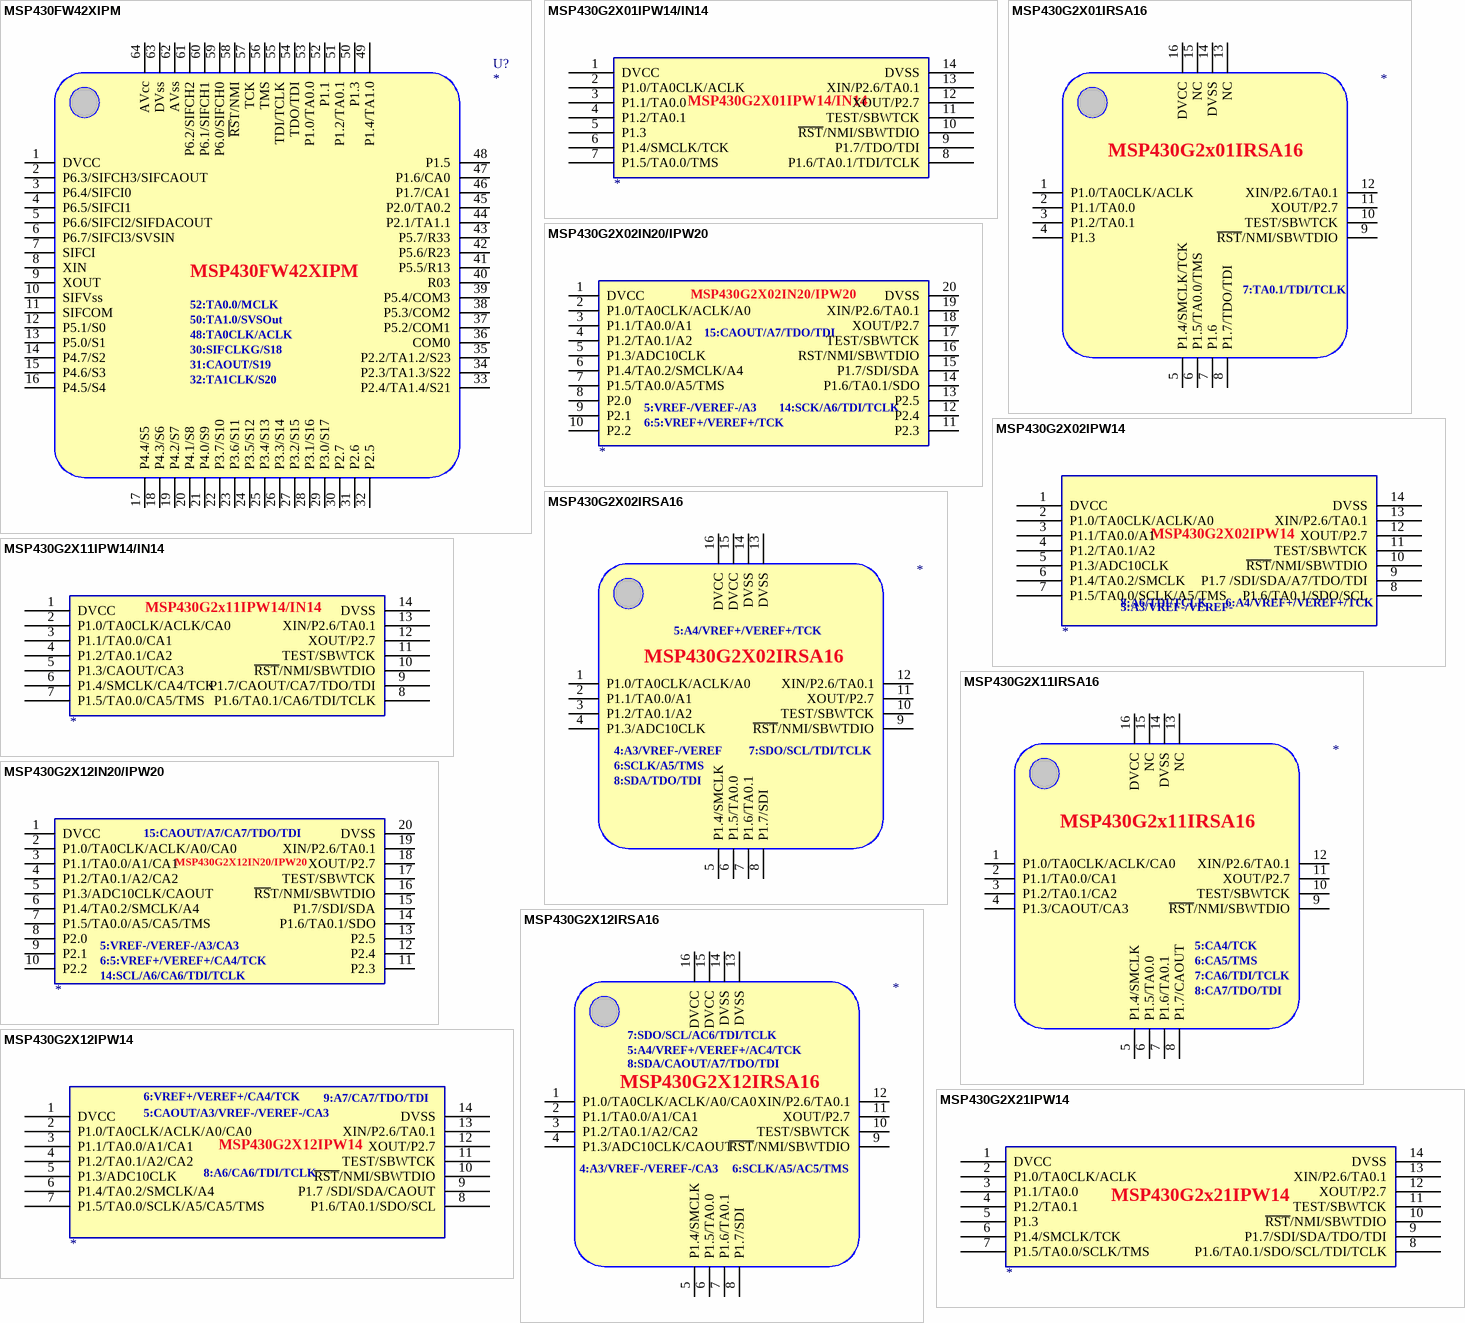
[diagram p16: symbols MSP430FW42XIPM to MSP430G2X21IPW14]

## MSP430FW42XIPM
designator U?
footprint S-PQFP-G64
pins: 1 DVCC, 2 P6.3/SIFCH3/SIFCAOUT, 3 P6.4/SIFCI0, 4 P6.5/SIFCI1, 5 P6.6/SIFCI2/SIFDACOUT, 6 P6.7/SIFCI3/SVSIN, 7 SIFCI, 8 XIN, 9 XOUT, 10 SIFVss, 11 SIFCOM, 12 P5.1/S0, 13 P5.0/S1, 14 P4.7/S2, 15 P4.6/S3, 16 P4.5/S4, 17 P4.4/S5, 18 P4.3/S6, 19 P4.2/S7, 20 P4.1/S8, 21 P4.0/S9, 22 P3.7/S10, 23 P3.6/S11, 24 P3.5/S12, 25 P3.4/S13, 26 P3.3/S14, 27 P3.2/S15, 28 P3.1/S16, 29 P3.0/S17, 30 P2.7, 31 P2.6, 32 P2.5, 33 P2.4/TA1.4/S21, 34 P2.3/TA1.3/S22, 35 P2.2/TA1.2/S23, 36 COM0, 37 P5.2/COM1, 38 P5.3/COM2, 39 P5.4/COM3, 40 R03, 41 P5.5/R13, 42 P5.6/R23, 43 P5.7/R33, 44 P2.1/TA1.1, 45 P2.0/TA0.2, 46 P1.7/CA1, 47 P1.6/CA0, 48 P1.5, 49 P1.4/TA1.0, 50 P1.3, 51 P1.2/TA0.1, 52 P1.1, 53 P1.0/TA0.0, 54 TDO/TDI, 55 TDI/TCLK, 56 TMS, 57 TCK, 58 ~{RS}T/NMI, 59 P6.0/SIFCH0, 60 P6.1/SIFCH1, 61 P6.2/SIFCH2, 62 AVss, 63 DVss, 64 AVcc
text: 52:TA0.0/MCLK; 50:TA1.0/SVSOut; 48:TA0CLK/ACLK; 30:SIFCLKG/S18; 31:CAOUT/S19; 32:TA1CLK/S20

## MSP430G2X01IPW14/IN14
designator ?
pins: 1 DVCC, 2 P1.0/TA0CLK/ACLK (power), 3 P1.1/TA0.0 (power), 4 P1.2/TA0.1 (power), 5 P1.3 (power), 6 P1.4/SMCLK/TCK (power), 7 P1.5/TA0.0/TMS (power), 8 P1.6/TA0.1/TDI/TCLK (power), 9 P1.7/TDO/TDI (power), 10 ~{RST}/NMI/SBWTDIO (power), 11 TEST/SBWTCK (power), 12 XOUT/P2.7 (power), 13 XIN/P2.6/TA0.1 (power), 14 DVSS (power)

## MSP430G2X01IRSA16
designator ?
pins: 1 P1.0/TA0CLK/ACLK, 2 P1.1/TA0.0, 3 P1.2/TA0.1, 4 P1.3, 5 P1.4/SMCLK/TCK, 6 P1.5/TA0.0/TMS, 7 P1.6, 8 P1.7/TDO/TDI, 9 ~{RST}/NMI/SBWTDIO, 10 TEST/SBWTCK, 11 XOUT/P2.7, 12 XIN/P2.6/TA0.1, 13 NC, 14 DVSS, 15 NC, 16 DVCC
text: MSP430G2x01IRSA16; 7:TA0.1/TDI/TCLK

## MSP430G2X02IN20/IPW20
designator ?
pins: 1 DVCC, 2 P1.0/TA0CLK/ACLK/A0 (power), 3 P1.1/TA0.0/A1 (power), 4 P1.2/TA0.1/A2 (power), 5 P1.3/ADC10CLK (power), 6 P1.4/TA0.2/SMCLK/A4 (power), 7 P1.5/TA0.0/A5/TMS (power), 8 P2.0 (power), 9 P2.1 (power), 10 P2.2 (power), 11 P2.3 (power), 12 P2.4 (power), 13 P2.5 (power), 14 P1.6/TA0.1/SDO (power), 15 P1.7/SDI/SDA (power), 16 RST/NMI/SBWTDIO (power), 17 TEST/SBWTCK (power), 18 XOUT/P2.7 (power), 19 XIN/P2.6/TA0.1 (power), 20 DVSS (power)
text: 15:CAOUT/A7/TDO/TDI; 5:VREF-/VEREF-/A3; 14:SCK/A6/TDI/TCLK; 6:5:VREF+/VEREF+/TCK

## MSP430G2X02IPW14
designator ?
pins: 1 DVCC, 2 P1.0/TA0CLK/ACLK/A0 (power), 3 P1.1/TA0.0/A1 (power), 4 P1.2/TA0.1/A2 (power), 5 P1.3/ADC10CLK (power), 6 P1.4/TA0.2/SMCLK (power), 7 P1.5/TA0.0/SCLK/A5/TMS (power), 8 P1.6/TA0.1/SDO/SCL (power), 9 P1.7 /SDI/SDA/A7/TDO/TDI (power), 10 ~{RST}/NMI/SBWTDIO (power), 11 TEST/SBWTCK (power), 12 XOUT/P2.7 (power), 13 XIN/P2.6/TA0.1 (power), 14 DVSS (power)
text: 8:A6/TDI/TCLK; 6:A4/VREF+/VEREF+/TCK; 5:A3/VREF-/VEREF-

## MSP430G2X02IRSA16
designator ?
pins: 1 P1.0/TA0CLK/ACLK/A0, 2 P1.1/TA0.0/A1, 3 P1.2/TA0.1/A2, 4 P1.3/ADC10CLK, 5 P1.4/SMCLK, 6 P1.5/TA0.0, 7 P1.6/TA0.1, 8 P1.7/SDI, 9 ~{RST}/NMI/SBWTDIO, 10 TEST/SBWTCK, 11 XOUT/P2.7, 12 XIN/P2.6/TA0.1, 13 DVSS, 14 DVSS, 15 DVCC, 16 DVCC
text: 5:A4/VREF+/VEREF+/TCK; 4:A3/VREF-/VEREF; 7:SDO/SCL/TDI/TCLK; 6:SCLK/A5/TMS; 8:SDA/TDO/TDI

## MSP430G2X11IPW14/IN14
designator ?
pins: 1 DVCC, 2 P1.0/TA0CLK/ACLK/CA0 (power), 3 P1.1/TA0.0/CA1 (power), 4 P1.2/TA0.1/CA2 (power), 5 P1.3/CAOUT/CA3 (power), 6 P1.4/SMCLK/CA4/TCK (power), 7 P1.5/TA0.0/CA5/TMS (power), 8  P1.6/TA0.1/CA6/TDI/TCLK (power), 9 P1.7/CAOUT/CA7/TDO/TDI (power), 10 ~{RST}/NMI/SBWTDIO (power), 11 TEST/SBWTCK (power), 12 XOUT/P2.7 (power), 13 XIN/P2.6/TA0.1 (power), 14 DVSS (power)
text: MSP430G2x11IPW14/IN14

## MSP430G2X11IRSA16
designator ?
pins: 1 P1.0/TA0CLK/ACLK/CA0, 2 P1.1/TA0.0/CA1, 3 P1.2/TA0.1/CA2, 4 P1.3/CAOUT/CA3, 5 P1.4/SMCLK, 6 P1.5/TA0.0, 7 P1.6/TA0.1, 8 P1.7/CAOUT, 9 ~{RST}/NMI/SBWTDIO, 10 TEST/SBWTCK, 11 XOUT/P2.7, 12 XIN/P2.6/TA0.1, 13 NC, 14 DVSS, 15 NC, 16 DVCC
text: MSP430G2x11IRSA16; 5:CA4/TCK; 6:CA5/TMS; 7:CA6/TDI/TCLK; 8:CA7/TDO/TDI

## MSP430G2X12IN20/IPW20
designator ?
pins: 1 DVCC, 2 P1.0/TA0CLK/ACLK/A0/CA0 (power), 3 P1.1/TA0.0/A1/CA1 (power), 4 P1.2/TA0.1/A2/CA2 (power), 5 P1.3/ADC10CLK/CAOUT (power), 6 P1.4/TA0.2/SMCLK/A4 (power), 7 P1.5/TA0.0/A5/CA5/TMS (power), 8 P2.0 (power), 9 P2.1 (power), 10 P2.2 (power), 11 P2.3 (power), 12 P2.4 (power), 13 P2.5 (power), 14 P1.6/TA0.1/SDO (power), 15 P1.7/SDI/SDA (power), 16 ~{RS}T/NMI/SBWTDIO (power), 17 TEST/SBWTCK (power), 18 XOUT/P2.7 (power), 19 XIN/P2.6/TA0.1 (power), 20 DVSS (power)
text: 15:CAOUT/A7/CA7/TDO/TDI; 5:VREF-/VEREF-/A3/CA3; 6:5:VREF+/VEREF+/CA4/TCK; 14:SCL/A6/CA6/TDI/TCLK

## MSP430G2X12IPW14
designator ?
pins: 1 DVCC, 2 P1.0/TA0CLK/ACLK/A0/CA0 (power), 3 P1.1/TA0.0/A1/CA1 (power), 4 P1.2/TA0.1/A2/CA2 (power), 5 P1.3/ADC10CLK (power), 6 P1.4/TA0.2/SMCLK/A4 (power), 7 P1.5/TA0.0/SCLK/A5/CA5/TMS (power), 8 P1.6/TA0.1/SDO/SCL (power), 9 P1.7 /SDI/SDA/CAOUT (power), 10 ~{RST}/NMI/SBWTDIO (power), 11 TEST/SBWTCK (power), 12 XOUT/P2.7 (power), 13 XIN/P2.6/TA0.1 (power), 14 DVSS (power)
text: 6:VREF+/VEREF+/CA4/TCK; 9:A7/CA7/TDO/TDI; 5:CAOUT/A3/VREF-/VEREF-/CA3; 8:A6/CA6/TDI/TCLK

## MSP430G2X12IRSA16
designator ?
pins: 1 P1.0/TA0CLK/ACLK/A0/CA0, 2 P1.1/TA0.0/A1/CA1, 3 P1.2/TA0.1/A2/CA2, 4 P1.3/ADC10CLK/CAOUT, 5 P1.4/SMCLK, 6 P1.5/TA0.0, 7 P1.6/TA0.1, 8 P1.7/SDI, 9 ~{RST}/NMI/SBWTDIO, 10 TEST/SBWTCK, 11 XOUT/P2.7, 12 XIN/P2.6/TA0.1, 13 DVSS, 14 DVSS, 15 DVCC, 16 DVCC
text: 7:SDO/SCL/AC6/TDI/TCLK; 5:A4/VREF+/VEREF+/AC4/TCK; 8:SDA/CAOUT/A7/TDO/TDI; 4:A3/VREF-/VEREF-/CA3; 6:SCLK/A5/AC5/TMS

## MSP430G2X21IPW14
designator ?
pins: 1 DVCC, 2 P1.0/TA0CLK/ACLK (power), 3 P1.1/TA0.0 (power), 4 P1.2/TA0.1 (power), 5 P1.3 (power), 6 P1.4/SMCLK/TCK (power), 7 P1.5/TA0.0/SCLK/TMS (power), 8 P1.6/TA0.1/SDO/SCL/TDI/TCLK (power), 9 P1.7/SDI/SDA/TDO/TDI (power), 10 ~{RST}/NMI/SBWTDIO (power), 11 TEST/SBWTCK (power), 12 XOUT/P2.7 (power), 13 XIN/P2.6/TA0.1 (power), 14 DVSS (power)
text: MSP430G2x21IPW14

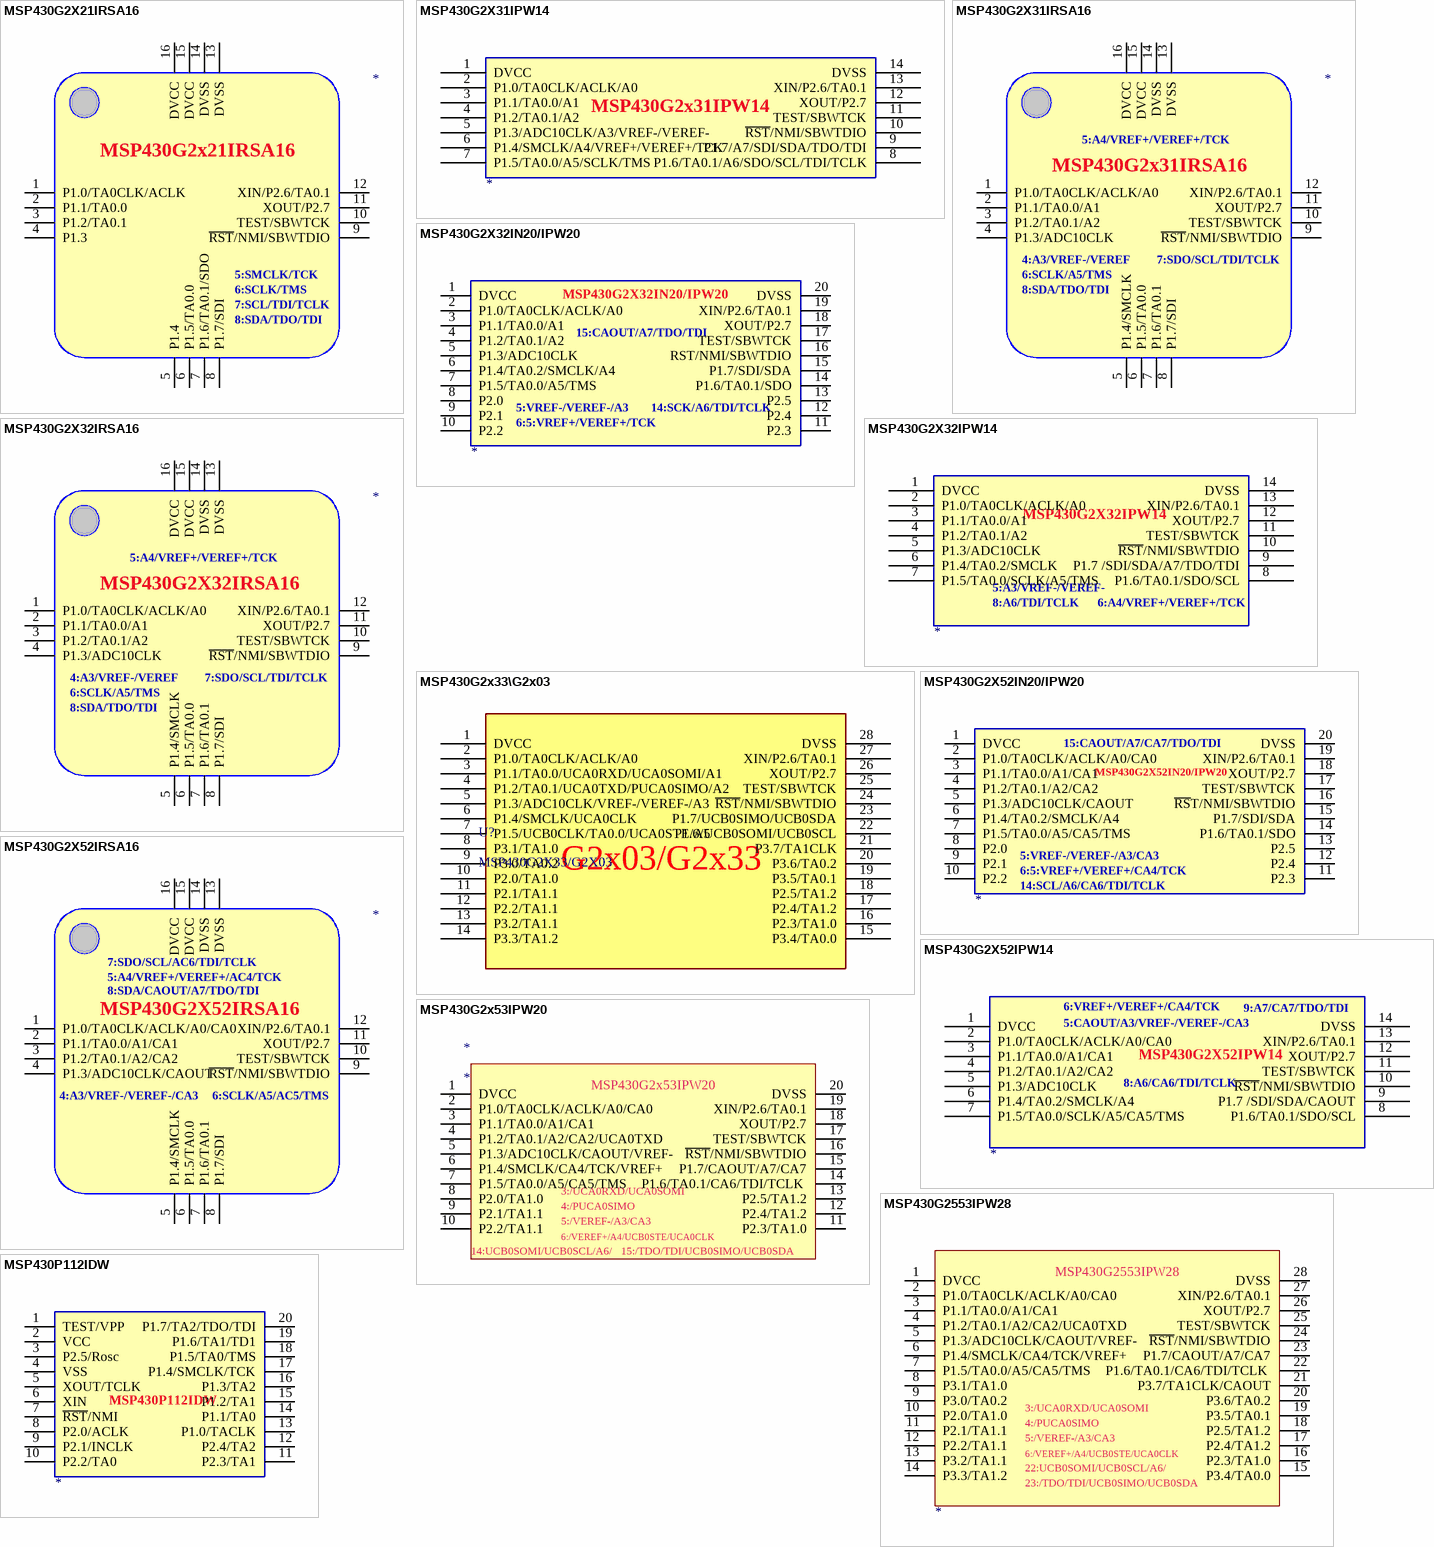
[diagram p17: symbols MSP430G2X21IRSA16 to MSP430P112IDW]

## MSP430G2X21IRSA16
designator ?
pins: 1 P1.0/TA0CLK/ACLK, 2 P1.1/TA0.0, 3 P1.2/TA0.1, 4 P1.3, 5 P1.4, 6 P1.5/TA0.0, 7 P1.6/TA0.1/SDO, 8 P1.7/SDI, 9 ~{RST}/NMI/SBWTDIO, 10 TEST/SBWTCK, 11 XOUT/P2.7, 12 XIN/P2.6/TA0.1, 13 DVSS, 14 DVSS, 15 DVCC, 16 DVCC
text: MSP430G2x21IRSA16; 5:SMCLK/TCK; 6:SCLK/TMS; 7:SCL/TDI/TCLK; 8:SDA/TDO/TDI

## MSP430G2X31IPW14
designator ?
pins: 1 DVCC, 2 P1.0/TA0CLK/ACLK/A0 (power), 3 P1.1/TA0.0/A1 (power), 4 P1.2/TA0.1/A2 (power), 5 P1.3/ADC10CLK/A3/VREF-/VEREF- (power), 6 P1.4/SMCLK/A4/VREF+/VEREF+/TCK (power), 7 P1.5/TA0.0/A5/SCLK/TMS (power), 8 P1.6/TA0.1/A6/SDO/SCL/TDI/TCLK (power), 9 P1.7/A7/SDI/SDA/TDO/TDI (power), 10 ~{RST}/NMI/SBWTDIO (power), 11 TEST/SBWTCK (power), 12 XOUT/P2.7 (power), 13 XIN/P2.6/TA0.1 (power), 14 DVSS (power)
text: MSP430G2x31IPW14

## MSP430G2X31IRSA16
designator ?
pins: 1 P1.0/TA0CLK/ACLK/A0, 2 P1.1/TA0.0/A1, 3 P1.2/TA0.1/A2, 4 P1.3/ADC10CLK, 5 P1.4/SMCLK, 6 P1.5/TA0.0, 7 P1.6/TA0.1, 8 P1.7/SDI, 9 ~{RST}/NMI/SBWTDIO, 10 TEST/SBWTCK, 11 XOUT/P2.7, 12 XIN/P2.6/TA0.1, 13 DVSS, 14 DVSS, 15 DVCC, 16 DVCC
text: 5:A4/VREF+/VEREF+/TCK; MSP430G2x31IRSA16; 4:A3/VREF-/VEREF; 7:SDO/SCL/TDI/TCLK; 6:SCLK/A5/TMS; 8:SDA/TDO/TDI

## MSP430G2X32IN20/IPW20
designator ?
pins: 1 DVCC, 2 P1.0/TA0CLK/ACLK/A0 (power), 3 P1.1/TA0.0/A1 (power), 4 P1.2/TA0.1/A2 (power), 5 P1.3/ADC10CLK (power), 6 P1.4/TA0.2/SMCLK/A4 (power), 7 P1.5/TA0.0/A5/TMS (power), 8 P2.0 (power), 9 P2.1 (power), 10 P2.2 (power), 11 P2.3 (power), 12 P2.4 (power), 13 P2.5 (power), 14 P1.6/TA0.1/SDO (power), 15 P1.7/SDI/SDA (power), 16 RST/NMI/SBWTDIO (power), 17 TEST/SBWTCK (power), 18 XOUT/P2.7 (power), 19 XIN/P2.6/TA0.1 (power), 20 DVSS (power)
text: 15:CAOUT/A7/TDO/TDI; 5:VREF-/VEREF-/A3; 14:SCK/A6/TDI/TCLK; 6:5:VREF+/VEREF+/TCK

## MSP430G2X32IPW14
designator ?
pins: 1 DVCC, 2 P1.0/TA0CLK/ACLK/A0 (power), 3 P1.1/TA0.0/A1 (power), 4 P1.2/TA0.1/A2 (power), 5 P1.3/ADC10CLK (power), 6 P1.4/TA0.2/SMCLK (power), 7 P1.5/TA0.0/SCLK/A5/TMS (power), 8 P1.6/TA0.1/SDO/SCL (power), 9 P1.7 /SDI/SDA/A7/TDO/TDI (power), 10 ~{RST}/NMI/SBWTDIO (power), 11 TEST/SBWTCK (power), 12 XOUT/P2.7 (power), 13 XIN/P2.6/TA0.1 (power), 14 DVSS (power)
text: 5:A3/VREF-/VEREF-; 8:A6/TDI/TCLK; 6:A4/VREF+/VEREF+/TCK

## MSP430G2X32IRSA16
designator ?
pins: 1 P1.0/TA0CLK/ACLK/A0, 2 P1.1/TA0.0/A1, 3 P1.2/TA0.1/A2, 4 P1.3/ADC10CLK, 5 P1.4/SMCLK, 6 P1.5/TA0.0, 7 P1.6/TA0.1, 8 P1.7/SDI, 9 ~{RST}/NMI/SBWTDIO, 10 TEST/SBWTCK, 11 XOUT/P2.7, 12 XIN/P2.6/TA0.1, 13 DVSS, 14 DVSS, 15 DVCC, 16 DVCC
text: 5:A4/VREF+/VEREF+/TCK; 4:A3/VREF-/VEREF; 7:SDO/SCL/TDI/TCLK; 6:SCLK/A5/TMS; 8:SDA/TDO/TDI

## MSP430G2x33\G2x03
designator U?, comment MSP430G2X33/G2X03
pins: 1 DVCC, 2 P1.0/TA0CLK/ACLK/A0, 3 P1.1/TA0.0/UCA0RXD/UCA0SOMI/A1, 4 P1.2/TA0.1/UCA0TXD/PUCA0SIMO/A2, 5 P1.3/ADC10CLK/VREF-/VEREF-/A3, 6 P1.4/SMCLK/UCA0CLK, 7 P1.5/UCB0CLK/TA0.0/UCA0STE/A5, 8 P3.1/TA1.0, 9 P3.0/TA0.2, 10 P2.0/TA1.0, 11 P2.1/TA1.1, 12 P2.2/TA1.1, 13 P3.2/TA1.1, 14 P3.3/TA1.2, 15 P3.4/TA0.0, 16 P2.3/TA1.0, 17 P2.4/TA1.2, 18 P2.5/TA1.2, 19 P3.5/TA0.1, 20 P3.6/TA0.2, 21 P3.7/TA1CLK, 22 P1.6/UCB0SOMI/UCB0SCL, 23 P1.7/UCB0SIMO/UCB0SDA, 24 ~{RST}/NMI/SBWTDIO, 25 TEST/SBWTCK, 26 XOUT/P2.7, 27 XIN/P2.6/TA0.1, 28 DVSS
text: G2x03/G2x33

## MSP430G2X52IN20/IPW20
designator ?
pins: 1 DVCC, 2 P1.0/TA0CLK/ACLK/A0/CA0 (power), 3 P1.1/TA0.0/A1/CA1 (power), 4 P1.2/TA0.1/A2/CA2 (power), 5 P1.3/ADC10CLK/CAOUT (power), 6 P1.4/TA0.2/SMCLK/A4 (power), 7 P1.5/TA0.0/A5/CA5/TMS (power), 8 P2.0 (power), 9 P2.1 (power), 10 P2.2 (power), 11 P2.3 (power), 12 P2.4 (power), 13 P2.5 (power), 14 P1.6/TA0.1/SDO (power), 15 P1.7/SDI/SDA (power), 16 ~{RS}T/NMI/SBWTDIO (power), 17 TEST/SBWTCK (power), 18 XOUT/P2.7 (power), 19 XIN/P2.6/TA0.1 (power), 20 DVSS (power)
text: 15:CAOUT/A7/CA7/TDO/TDI; 5:VREF-/VEREF-/A3/CA3; 6:5:VREF+/VEREF+/CA4/TCK; 14:SCL/A6/CA6/TDI/TCLK

## MSP430G2X52IPW14
designator ?
pins: 1 DVCC, 2 P1.0/TA0CLK/ACLK/A0/CA0 (power), 3 P1.1/TA0.0/A1/CA1 (power), 4 P1.2/TA0.1/A2/CA2 (power), 5 P1.3/ADC10CLK (power), 6 P1.4/TA0.2/SMCLK/A4 (power), 7 P1.5/TA0.0/SCLK/A5/CA5/TMS (power), 8 P1.6/TA0.1/SDO/SCL (power), 9 P1.7 /SDI/SDA/CAOUT (power), 10 ~{RST}/NMI/SBWTDIO (power), 11 TEST/SBWTCK (power), 12 XOUT/P2.7 (power), 13 XIN/P2.6/TA0.1 (power), 14 DVSS (power)
text: 6:VREF+/VEREF+/CA4/TCK; 9:A7/CA7/TDO/TDI; 5:CAOUT/A3/VREF-/VEREF-/CA3; 8:A6/CA6/TDI/TCLK

## MSP430G2X52IRSA16
designator ?
pins: 1 P1.0/TA0CLK/ACLK/A0/CA0, 2 P1.1/TA0.0/A1/CA1, 3 P1.2/TA0.1/A2/CA2, 4 P1.3/ADC10CLK/CAOUT, 5 P1.4/SMCLK, 6 P1.5/TA0.0, 7 P1.6/TA0.1, 8 P1.7/SDI, 9 ~{RST}/NMI/SBWTDIO, 10 TEST/SBWTCK, 11 XOUT/P2.7, 12 XIN/P2.6/TA0.1, 13 DVSS, 14 DVSS, 15 DVCC, 16 DVCC
text: 7:SDO/SCL/AC6/TDI/TCLK; 5:A4/VREF+/VEREF+/AC4/TCK; 8:SDA/CAOUT/A7/TDO/TDI; 4:A3/VREF-/VEREF-/CA3; 6:SCLK/A5/AC5/TMS

## MSP430G2x53IPW20
designator *
pins: 1 DVCC (oe), 2 P1.0/TA0CLK/ACLK/A0/CA0 (oe), 3 P1.1/TA0.0/A1/CA1 (oe), 4 P1.2/TA0.1/A2/CA2/UCA0TXD (oe), 5 P1.3/ADC10CLK/CAOUT/VREF- (oe), 6 P1.4/SMCLK/CA4/TCK/VREF+ (oe), 7 P1.5/TA0.0/A5/CA5/TMS (oe), 8 P2.0/TA1.0 (oe), 9 P2.1/TA1.1 (oe), 10 P2.2/TA1.1 (oe), 11 P2.3/TA1.0 (oe), 12 P2.4/TA1.2 (oe), 13 P2.5/TA1.2 (oe), 14 P1.6/TA0.1/CA6/TDI/TCLK  (oe), 15 P1.7/CAOUT/A7/CA7 (oe), 16 ~{RST}/NMI/SBWTDIO (oe), 17 TEST/SBWTCK (oe), 18 XOUT/P2.7 (oe), 19 XIN/P2.6/TA0.1 (oe), 20 DVSS (oe)
text: 3:/UCA0RXD/UCA0SOMI; 4:/PUCA0SIMO; 5:/VEREF-/A3/CA3; 6:/VEREF+/A4/UCB0STE/UCA0CLK; 14:UCB0SOMI/UCB0SCL/A6/; 15:/TDO/TDI/UCB0SIMO/UCB0SDA

## MSP430G2553IPW28
designator ?
pins: 1 DVCC (oe), 2 P1.0/TA0CLK/ACLK/A0/CA0 (oe), 3 P1.1/TA0.0/A1/CA1 (oe), 4 P1.2/TA0.1/A2/CA2/UCA0TXD (oe), 5 P1.3/ADC10CLK/CAOUT/VREF- (oe), 6 P1.4/SMCLK/CA4/TCK/VREF+ (oe), 7 P1.5/TA0.0/A5/CA5/TMS (oe), 8 P3.1/TA1.0 (oe), 9 P3.0/TA0.2 (oe), 10 P2.0/TA1.0 (oe), 11 P2.1/TA1.1 (oe), 12 P2.2/TA1.1 (oe), 13 P3.2/TA1.1 (oe), 14 P3.3/TA1.2 (oe), 15 P3.4/TA0.0 (oe), 16 P2.3/TA1.0 (oe), 17 P2.4/TA1.2 (oe), 18 P2.5/TA1.2 (oe), 19 P3.5/TA0.1 (oe), 20 P3.6/TA0.2 (oe), 21 P3.7/TA1CLK/CAOUT (oe), 22 P1.6/TA0.1/CA6/TDI/TCLK  (oe), 23 P1.7/CAOUT/A7/CA7 (oe), 24 ~{RST}/NMI/SBWTDIO (oe), 25 TEST/SBWTCK (oe), 26 XOUT/P2.7 (oe), 27 XIN/P2.6/TA0.1 (oe), 28 DVSS (oe)
text: 3:/UCA0RXD/UCA0SOMI; 4:/PUCA0SIMO; 5:/VEREF-/A3/CA3; 6:/VEREF+/A4/UCB0STE/UCA0CLK; 22:UCB0SOMI/UCB0SCL/A6/; 23:/TDO/TDI/UCB0SIMO/UCB0SDA

## MSP430P112IDW
designator ?
pins: 1 TEST/VPP, 2 VCC (power), 3 P2.5/Rosc (power), 4 VSS (power), 5 XOUT/TCLK (power), 6 XIN (power), 7 ~{RST}/NMI (power), 8 P2.0/ACLK (power), 9 P2.1/INCLK (power), 10 P2.2/TA0 (power), 11 P2.3/TA1 (power), 12 P2.4/TA2 (power), 13 P1.0/TACLK (power), 14 P1.1/TA0 (power), 15 P1.2/TA1 (power), 16 P1.3/TA2 (power), 17 P1.4/SMCLK/TCK (power), 18 P1.5/TA0/TMS (power), 19 P1.6/TA1/TD1 (power), 20 P1.7/TA2/TDO/TDI (power)